# Altium schematic symbol library IC.SchLib: 160 symbols (part 1 of 2)
Pins are listed as number, name and electrical type; pins without a type are passive.

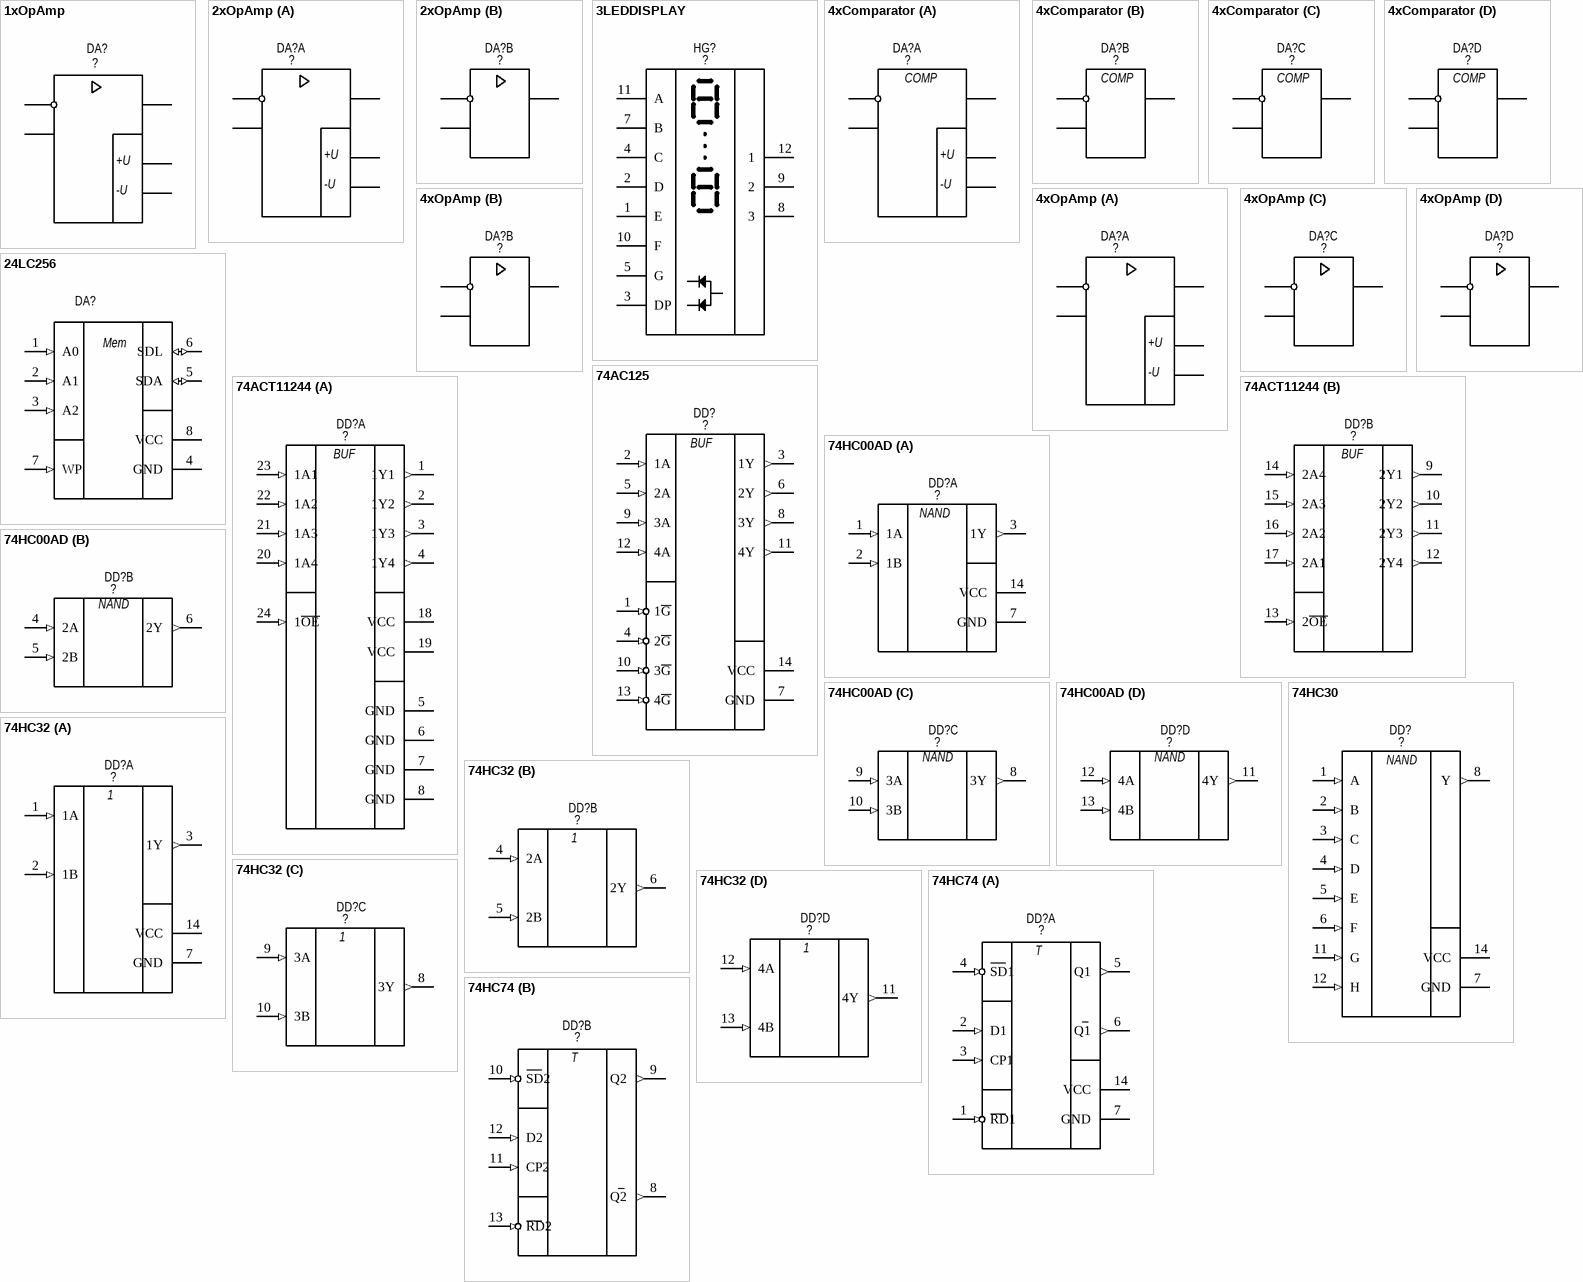
[diagram p0: symbols 1xOpAmp to 74HC74]

## 1xOpAmp
designator DA?, comment ?
Type: ?; Value: ?
pins: IN+, IN-, OUT, U+, U-
text: +U; -U

## 2xOpAmp
designator DA?, comment ?
Type: ?; Value: ?
part A pins: IN1+, IN1-, OUT1, U+, U-
part B pins: IN2+, IN2-, OUT2
part A text: +U; -U

## 3LEDDISPLAY
designator HG?, comment ?
THREE DIGIT NUMERIC DISPLAY; Type: ?; Value: ?
pins: 1 E, 2 D, 3 DP, 4 C, 5 G, 6 hidden, 7 B, 8 3, 9 2, 10 F, 11 A, 12 1

## 4xComparator
designator DA?, comment ?
Type: ?; Value: ?
part A pins: IN1+, IN1-, OUT1, U+, U-
part B pins: IN2+, IN2-, OUT2
part C pins: IN3+, IN3-, OUT3
part D pins: IN4+, IN4-, OUT4
part A text: COMP; +U; -U
part B text: COMP
part C text: COMP
part D text: COMP

## 4xOpAmp
designator DA?, comment ?
Type: ?; Value: ?
part A pins: IN1+, IN1-, OUT1, U+ (power), U- (power)
part B pins: IN2+, IN2-, OUT2
part C pins: IN3+, IN3-, OUT3
part D pins: IN4+, IN4-, OUT4
part A text: +U; -U

## 24LC256
designator DA?
256K I2C™ CMOS Serial EEPROM; Type: ?
pins: 1 A0 (in), 2 A1 (in), 3 A2 (in), 4 GND (power), 5 SDA (io), 6 SDL (io), 7 WP (in), 8 VCC (power)
text: Mem

## 74AC125
designator DD?, comment ?
QUAD BUS BUFFERS (3-STATE); Type: ?; Value: ?
pins: 1 1~{G} (in), 2 1A (in), 3 1Y (out), 4 2~{G} (in), 5 2A (in), 6 2Y (out), 7 GND (power), 8 3Y (out), 9 3A (in), 10 3~{G} (in), 11 4Y (out), 12 4A (in), 13 4~{G} (in), 14 VCC (power)
text: BUF

## 74ACT11244
designator DD?, comment ?
OCTAL BUFFER/LINE DRIVER; Type: ?; Value: ?
part A pins: 1 1Y1 (out), 2 1Y2 (out), 3 1Y3 (out), 4 1Y4 (out), 5 GND (power), 6 GND (power), 7 GND (power), 8 GND (power), 18 VCC (power), 19 VCC (power), 20 1A4 (in), 21 1A3 (in), 22 1A2 (in), 23 1A1 (in), 24 1~{OE} (in)
part B pins: 9 2Y1 (out), 10 2Y2 (out), 11 2Y3 (out), 12 2Y4 (out), 13 2~{OE} (in), 14 2A4 (in), 15 2A3 (in), 16 2A2 (in), 17 2A1 (in)
part A text: BUF
part B text: BUF

## 74HC00AD
designator DD?, comment ?
Quad 2-Input NAND Gate; Type: ?; Value: ?
part A pins: 1 1A (in), 2 1B (in), 3 1Y (out), 7 GND (power), 14 VCC (power)
part B pins: 4 2A (in), 5 2B (in), 6 2Y (out)
part C pins: 8 3Y (out), 9 3A (in), 10 3B (in)
part D pins: 11 4Y (out), 12 4A (in), 13 4B (in)
part A text: NAND
part B text: NAND
part C text: NAND
part D text: NAND

## 74HC30
designator DD?, comment ?
8-input NAND gate; Type: ?; Value: ?
pins: 1 A (in), 2 B (in), 3 C (in), 4 D (in), 5 E (in), 6 F (in), 7 GND (power), 8 Y (out), 9 NC hidden, 10 NC hidden, 11 G (in), 12 H (in), 13 NC hidden, 14 VCC (power)
text: NAND

## 74HC32
designator DD?, comment ?
Quad 2-input OR gate; Type: ?; Value: ?
part A pins: 1 1A (in), 2 1B (in), 3 1Y (out), 7 GND (power), 14 VCC (power)
part B pins: 4 2A (in), 5 2B (in), 6 2Y (out)
part C pins: 8 3Y (out), 9 3A (in), 10 3B (in)
part D pins: 11 4Y (out), 12 4A (in), 13 4B (in)

## 74HC74
designator DD?, comment ?
Dual D-type flip-flop with set and reset; positive edge-trigger; Type: ?; Value: ?
part A pins: 1 RD1 (in), 2 D1 (in), 3 CP1 (in), 4 SD1 (in), 5 Q1 (out), 6 Q1 (out), 7 GND (power), 14 VCC (power)
part B pins: 8 Q2 (out), 9 Q2 (out), 10 SD2 (in), 11 CP2 (in), 12 D2 (in), 13 RD2 (in)
part A text: T
part B text: T

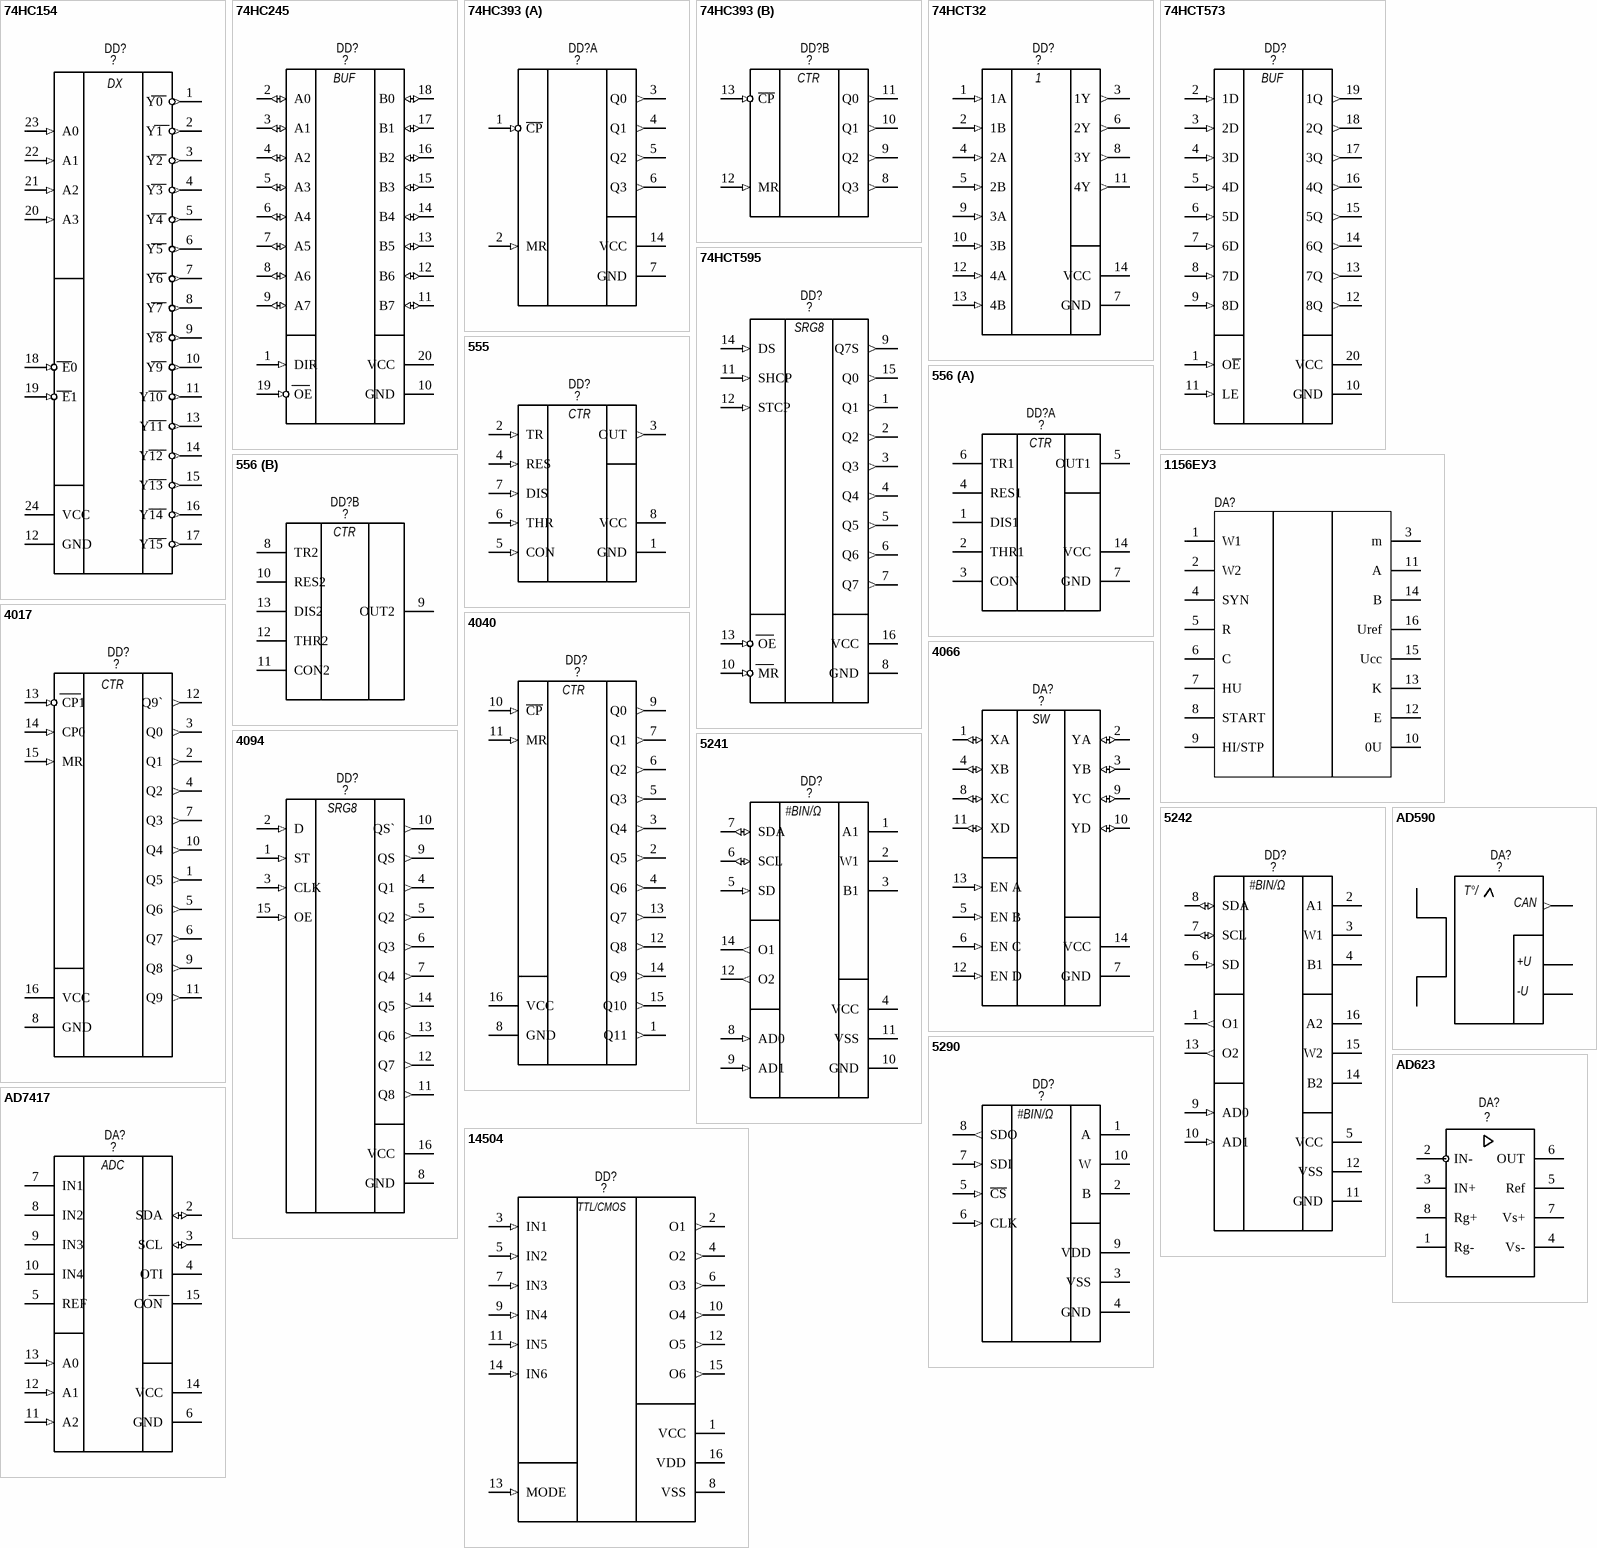
[diagram p1: symbols 74HC154 to AD7417]

## 74HC154
designator DD?, comment ?
4-to-16 line decoder/demultiplexer; Type: ?; Value: ?
pins: 1 Y0 (out), 2 Y1 (out), 3 Y2 (out), 4 Y3 (out), 5 Y4 (out), 6 Y5 (out), 7 Y6 (out), 8 Y7 (out), 9 Y8 (out), 10 Y9 (out), 11 Y10 (out), 12 GND (power), 13 Y11 (out), 14 Y12 (out), 15 Y13 (out), 16 Y14 (out), 17 Y15 (out), 18 E0 (in), 19 E1 (in), 20 A3 (in), 21 A2 (in), 22 A1 (in), 23 A0 (in), 24 VCC (power)
text: DX

## 74HC245
designator DD?, comment ?
Octal bus tranceiver; 3-state; Type: ?; Value: ?
pins: 1 DIR (in), 2 A0 (io), 3 A1 (io), 4 A2 (io), 5 A3 (io), 6 A4 (io), 7 A5 (io), 8 A6 (io), 9 A7 (io), 10 GND (power), 11 B7 (io), 12 B6 (io), 13 B5 (io), 14 B4 (io), 15 B3 (io), 16 B2 (io), 17 B1 (io), 18 B0 (io), 19 OE (in), 20 VCC (power)
text: BUF

## 74HC393
designator DD?, comment ?
Dual 4-bit binary ripple counter; Type: ?; Value: ?
part A pins: 1 ~{CP} (in), 2 MR (in), 3 Q0 (out), 4 Q1 (out), 5 Q2 (out), 6 Q3 (out), 7 GND (power), 14 VCC (power)
part B pins: 8 Q3 (out), 9 Q2 (out), 10 Q1 (out), 11 Q0 (out), 12 MR (in), 13 ~{CP} (in)
part B text: CTR

## 74HCT32
designator DD?, comment ?
Quad 2-input OR gate; Type: ?; Value: ?
pins: 1 1A (in), 2 1B (in), 3 1Y (out), 4 2A (in), 5 2B (in), 6 2Y (out), 7 GND (power), 8 3Y (out), 9 3A (in), 10 3B (in), 11 4Y (out), 12 4A (in), 13 4B (in), 14 VCC (power)

## 74HCT573
designator DD?, comment ?
8-и разрядный регистр-защелка с тремя состояниями на выходе; Type: ?; Value: ?
pins: 1 O~{E} (in), 2 1D (in), 3 2D (in), 4 3D (in), 5 4D (in), 6 5D (in), 7 6D (in), 8 7D (in), 9 8D (in), 10 GND (power), 11 LE (in), 12 8Q (out), 13 7Q (out), 14 6Q (out), 15 5Q (out), 16 4Q (out), 17 3Q (out), 18 2Q (out), 19 1Q (out), 20 VCC (power)
text: BUF

## 74HCT595
designator DD?, comment ?
8-bit serial-in, serial or parallel-out shift register with output  latches; 3-state; Type: ?; Value: ?
pins: 1 Q1 (out), 2 Q2 (out), 3 Q3 (out), 4 Q4 (out), 5 Q5 (out), 6 Q6 (out), 7 Q7 (out), 8 GND (power), 9 Q7S (out), 10 MR (in), 11 SHCP (in), 12 STCP (in), 13 OE (in), 14 DS (in), 15 Q0 (out), 16 VCC (power)
text: SRG8

## 555
designator DD?, comment ?
Precision Timing Circuit.; Type: ?; Value: ?
pins: 1 GND (power), 2 TR (in), 3 OUT (out), 4 RES (in), 5 CON (in), 6 THR (in), 7 DIS (in), 8 VCC (power)
text: CTR

## 556
designator DD?, comment ?
Two Precision Timing Circuits; Type: ?; Value: ?
part A pins: 1 DIS1, 2 THR1, 3 CON, 4 RES1, 5 OUT1, 6 TR1, 7 GND, 14 VCC
part B pins: 8 TR2, 9 OUT2, 10 RES2, 11 CON2, 12 THR2, 13 DIS2
part A text: CTR
part B text: CTR

## 1156ЕУ3
designator DA?  (value not drawn)
value: *; type: *
pins: 1 W1, 2 W2, 3 m, 4 SYN, 5 R, 6 C, 7 HU, 8 START, 9 HI/STP, 10 0U, 11 A, 12 E, 13 K, 14 B, 15 Ucc, 16 Uref

## 4017
designator DD?, comment ?
5-stage Johnson decade counter; Type: ?; Value: ?
pins: 1 Q5 (out), 2 Q1 (out), 3 Q0 (out), 4 Q2 (out), 5 Q6 (out), 6 Q7 (out), 7 Q3 (out), 8 GND (power), 9 Q8 (out), 10 Q4 (out), 11 Q9 (out), 12 Q9` (out), 13 CP1 (in), 14 CP0 (in), 15 MR (in), 16 VCC (power)
text: CTR

## 4040
designator DD?, comment ?
12-stage binary ripple counter; Type: ?; Value: ?
pins: 1 Q11 (out), 2 Q5 (out), 3 Q4 (out), 4 Q6 (out), 5 Q3 (out), 6 Q2 (out), 7 Q1 (out), 8 GND (power), 9 Q0 (out), 10 ~{CP} (in), 11 MR (in), 12 Q8 (out), 13 Q7 (out), 14 Q9 (out), 15 Q10 (out), 16 VCC (power)
text: CTR

## 4066
designator DA?, comment ?
Quad Analog Switch/  Multiplexer/Demultiplexer.; Type: ?; Value: ?
pins: 1 XA (io), 2 YA (io), 3 YB (io), 4 XB (io), 5 EN B (in), 6 EN C (in), 7 GND (power), 8 XC (io), 9 YC (io), 10 YD (io), 11 XD (io), 12 EN D (in), 13 EN A (in), 14 VCC (power)
text: SW

## 4094
designator DD?, comment ?
8-Bit Shift Register/Latch with 3-STATE Outputs.; Type: ?; Value: ?
pins: 1 ST (in), 2 D (in), 3 CLK (in), 4 Q1 (out), 5 Q2 (out), 6 Q3 (out), 7 Q4 (out), 8 GND (power), 9 QS (out), 10 QS` (out), 11 Q8 (out), 12 Q7 (out), 13 Q6 (out), 14 Q5 (out), 15 OE (in), 16 VCC (power)
text: SRG8

## 5241
designator DD?, comment ?
I2C Compatible  256-Position Digital Potentiometer; Type: ?; Value: ?
pins: 1 A1, 2 W1, 3 B1, 4 VCC (power), 5 SD (in), 6 SCL (io), 7 SDA (io), 8 AD0 (in), 9 AD1 (in), 10 GND (power), 11 VSS (power), 12 O2 (out), 14 O1 (out)
text: #BIN/Ω

## 5242
designator DD?, comment ?
Two I2C Compatible  256-Position Digital Potentiometers; Type: ?; Value: ?
pins: 1 O1 (out), 2 A1, 3 W1, 4 B1, 5 VCC (power), 6 SD (in), 7 SCL (io), 8 SDA (io), 9 AD0 (in), 10 AD1 (in), 11 GND (power), 12 VSS (power), 13 O2 (out), 14 B2, 15 W2, 16 A2
text: #BIN/Ω

## 5290
designator DD?, comment ?
Compact +30 V / ±15 V 256-Position  Digital Potentiometer; Type: ?; Value: ?
pins: 1 A, 2 B, 3 VSS (power), 4 GND (power), 5 ~{CS} (in), 6 CLK (in), 7 SDI (in), 8 SDO (out), 9 VDD (power), 10 W
text: #BIN/Ω

## 14504
designator DD?, comment ?
Hex Level Shifter for TTL to CMOS or CMOS to CMOS.; Type: ?; Value: ?
pins: 1 VCC (power), 2 O1 (out), 3 IN1 (in), 4 O2 (out), 5 IN2 (in), 6 O3 (out), 7 IN3 (in), 8 VSS (power), 9 IN4 (in), 10 O4 (out), 11 IN5 (in), 12 O5 (out), 13 MODE (in), 14 IN6 (in), 15 O6 (out), 16 VDD (power)
text: TTL/CMOS

## AD590
designator DA?, comment ?
Two-Terminal IC  Temperature Transducer; Type: ?; Value: ?
pins: 1 U+ (power), 2 OUT (out), 3 U- (power)
text: T°/; CAN; +U; -U

## AD623
designator DA?, comment ?
Type: ?; Value: ?
pins: 1 Rg-, 2 IN-, 3 IN+, 4 Vs-, 5 Ref, 6 OUT, 7 Vs+, 8 Rg+

## AD7417
designator DA?, comment ?
10-Bit Digital Temperature Sensor  and  Four-Channel ADC.; Type: ?; Value: ?
pins: 2 SDA (io), 3 SCL (io), 4 OTI, 5 REF, 6 GND (power), 7 IN1, 8 IN2, 9 IN3, 10 IN4, 11 A2 (in), 12 A1 (in), 13 A0 (in), 14 VCC (power), 15 CON
text: ADC

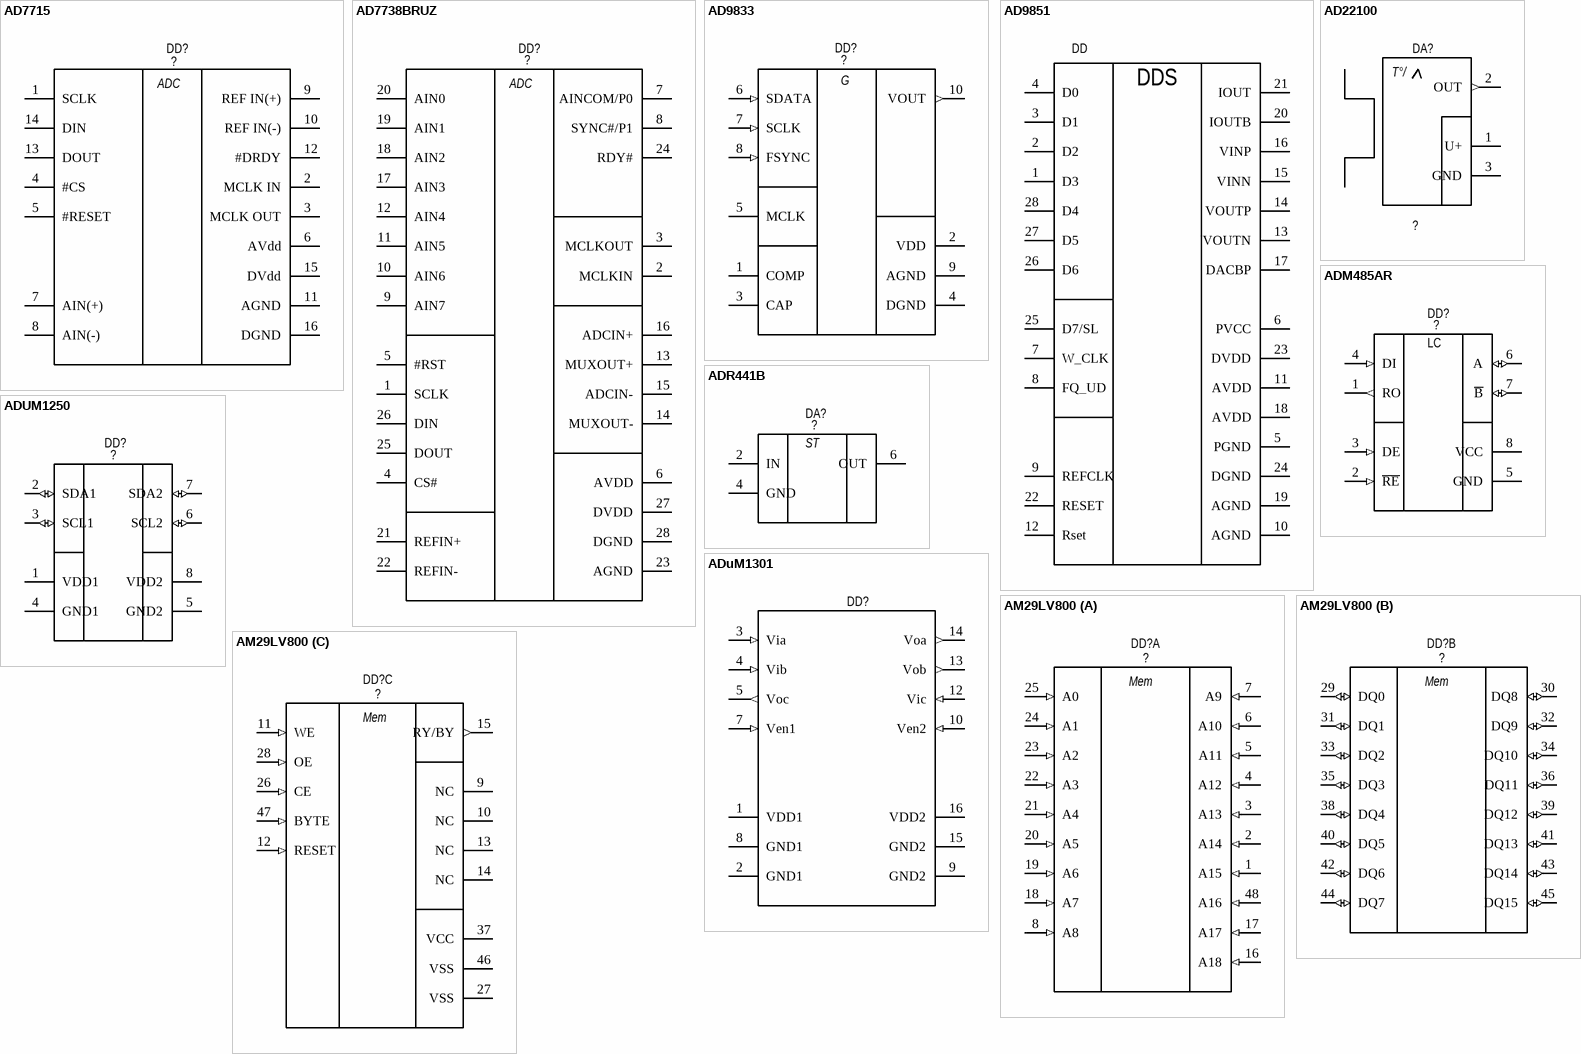
[diagram p2: symbols AD7715 to AM29LV800]

## AD7715
designator DD?, comment ?
3 V/5 V, 450 uA  16-Bit, Sigma-Delta ADC; Type: *; Value: ?
pins: 1 SCLK, 2 MCLK IN, 3 MCLK OUT, 4 #CS, 5 #RESET, 6 AVdd, 7 AIN(+), 8 AIN(-), 9 REF IN(+), 10 REF IN(-), 11 AGND, 12 #DRDY, 13 DOUT, 14 DIN, 15 DVdd, 16 DGND
text: ADC

## AD7738BRUZ
designator DD?, comment ?
8-Channel, High Throughput,  24-Bit Delta-Sigma -  ADC; Type: ?; Value: ?
pins: 1 SCLK, 2 MCLKIN, 3 MCLKOUT, 4 CS#, 5 #RST, 6 AVDD, 7 AINCOM/P0, 8 SYNC#/P1, 9 AIN7, 10 AIN6, 11 AIN5, 12 AIN4, 13 MUXOUT+, 14 MUXOUT-, 15 ADCIN-, 16 ADCIN+, 17 AIN3, 18 AIN2, 19 AIN1, 20 AIN0, 21 REFIN+, 22 REFIN-, 23 AGND, 24 RDY#, 25 DOUT, 26 DIN, 27 DVDD, 28 DGND
text: ADC

## AD9833
designator DD?, comment ?
Programmable Waveform Generator; Type: ?; Value: ?
pins: 1 COMP, 2 VDD (power), 3 CAP, 4 DGND (power), 5 MCLK, 6 SDATA (in), 7 SCLK (in), 8 FSYNC (in), 9 AGND (power), 10 VOUT (out)
text: G

## AD9851
designator DD  (value not drawn)
DDS 180Mghz synteser; type: *; Value: *
pins: 1 D3, 2 D2, 3 D1, 4 D0, 5 PGND, 6 PVCC, 7 W_CLK, 8 FQ_UD, 9 REFCLK, 10 AGND, 11 AVDD, 12 Rset, 13 VOUTN, 14 VOUTP, 15 VINN, 16 VINP, 17 DACBP, 18 AVDD, 19 AGND, 20 IOUTB, 21 IOUT, 22 RESET, 23 DVDD, 24 DGND, 25 D7/SL, 26 D6, 27 D5, 28 D4
text: DDS

## AD22100
designator DA?, comment ?
Two-Terminal IC  Temperature Transducer; Type: ?; value: ?
pins: 1 U+ (power), 2 OUT (out), 3 GND (power)
text: T°/

## ADM485AR
designator DD?, comment ?
+5 V Low Power RS-485 Transceiver; type: *; value: ?
pins: 1 RO (out), 2 ~{RE} (in), 3 DE (in), 4 DI (in), 5 GND, 6 A (io), 7 ~{B} (io), 8 VCC
text: LC

## ADR441B
designator DA?, comment ?
Ultralow Noise, LDO XFET Voltage  References with Current Sink and Source.; Type: ?; Value: ?
pins: 2 IN, 4 GND, 6 OUT
text: ST

## ADUM1250
designator DD?, comment ?
Hot Swappable Dual I2C Isolators; Type: ?; Value: ?
pins: 1 VDD1 (power), 2 SDA1 (io), 3 SCL1 (io), 4 GND1 (power), 5 GND2 (power), 6 SCL2 (io), 7 SDA2 (io), 8 VDD2 (power)

## ADuM1301
designator DD?, comment ADUM1301  (value not drawn)
price: 68
footprint SO-16W
pins: 1 VDD1, 2 GND1, 3 Via (in), 4 Vib (in), 5 Voc (out), 6 NC hidden, 7 Ven1 (in), 8 GND1, 9 GND2, 10 Ven2 (in), 11 NC hidden, 12 Vic (in), 13 Vob (out), 14 Voa (out), 15 GND2, 16 VDD2

## AM29LV800
designator DD?, comment ?
8 Megabit (1 M x 8-Bit/512 K x 16-Bit)  CMOS 3.0 Volt-only Boot Sector Flash Memory; Type: ?; Value: ?
part A pins: 1 A15 (in), 2 A14 (in), 3 A13 (in), 4 A12 (in), 5 A11 (in), 6 A10 (in), 7 A9 (in), 8 A8 (in), 16 A18 (in), 17 A17 (in), 18 A7 (in), 19 A6 (in), 20 A5 (in), 21 A4 (in), 22 A3 (in), 23 A2 (in), 24 A1 (in), 25 A0 (in), 48 A16 (in)
part B pins: 29 DQ0 (io), 30 DQ8 (io), 31 DQ1 (io), 32 DQ9 (io), 33 DQ2 (io), 34 DQ10 (io), 35 DQ3 (io), 36 DQ11 (io), 38 DQ4 (io), 39 DQ12 (io), 40 DQ5 (io), 41 DQ13 (io), 42 DQ6 (io), 43 DQ14 (io), 44 DQ7 (io), 45 DQ15 (io)
part C pins: 9 NC, 10 NC, 11 WE (in), 12 RESET (in), 13 NC, 14 NC, 15 RY/BY (out), 26 CE (in), 27 VSS (power), 28 OE (in), 37 VCC (power), 46 VSS (power), 47 BYTE (in)
part A text: Mem
part B text: Mem
part C text: Mem

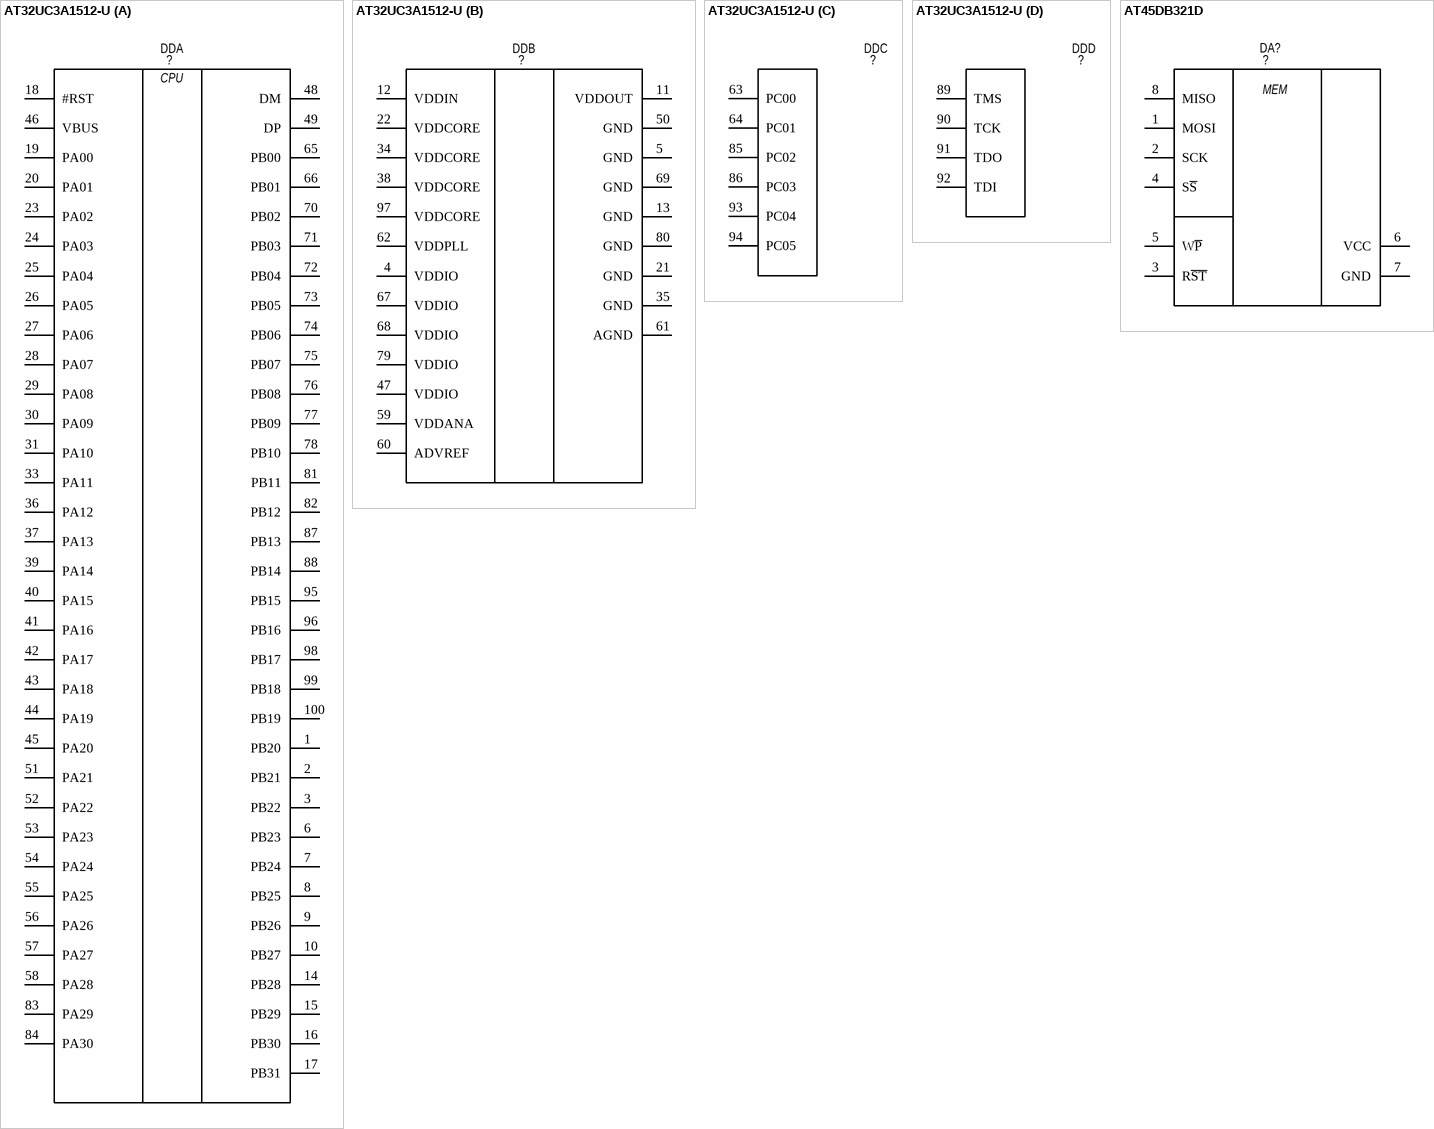
[diagram p3: symbols AT32UC3A1512-U to AT45DB321D]

## AT32UC3A1512-U
designator DD, comment ?
32-Bit Atmel AVR  Microcontroller; Type: TQFP-100; Value: ?
part A pins: 1 PB20, 2 PB21, 3 PB22, 6 PB23, 7 PB24, 8 PB25, 9 PB26, 10 PB27, 14 PB28, 15 PB29, 16 PB30, 17 PB31, 18 #RST, 19 PA00, 20 PA01, 23 PA02, 24 PA03, 25 PA04, 26 PA05, 27 PA06, 28 PA07, 29 PA08, 30 PA09, 31 PA10, 33 PA11, 36 PA12, 37 PA13, 39 PA14, 40 PA15, 41 PA16, 42 PA17, 43 PA18, 44 PA19, 45 PA20, 46 VBUS, 48 DM, 49 DP, 51 PA21, 52 PA22, 53 PA23, 54 PA24, 55 PA25, 56 PA26, 57 PA27, 58 PA28, 65 PB00, 66 PB01, 70 PB02, 71 PB03, 72 PB04, 73 PB05, 74 PB06, 75 PB07, 76 PB08, 77 PB09, 78 PB10, 81 PB11, 82 PB12, 83 PA29, 84 PA30, 87 PB13, 88 PB14, 95 PB15, 96 PB16, 98 PB17, 99 PB18, 100 PB19
part B pins: 4 VDDIO, 5 GND, 11 VDDOUT, 12 VDDIN, 13 GND, 21 GND, 22 VDDCORE, 34 VDDCORE, 35 GND, 38 VDDCORE, 47 VDDIO, 50 GND, 59 VDDANA, 60 ADVREF, 61 AGND, 62 VDDPLL, 67 VDDIO, 68 VDDIO, 69 GND, 79 VDDIO, 80 GND, 97 VDDCORE
part C pins: 63 PC00, 64 PC01, 85 PC02, 86 PC03, 93 PC04, 94 PC05
part D pins: 89 TMS, 90 TCK, 91 TDO, 92 TDI
part A text: CPU

## AT45DB321D
designator DA?, comment ?
32-megabit  serial interface Flash memory; Type: ?; Value: ?
pins: 1 MOSI, 2 SCK, 3 R~{ST}, 4 S~{S}, 5 W~{P}, 6 VCC, 7 GND, 8 MISO
text: MEM

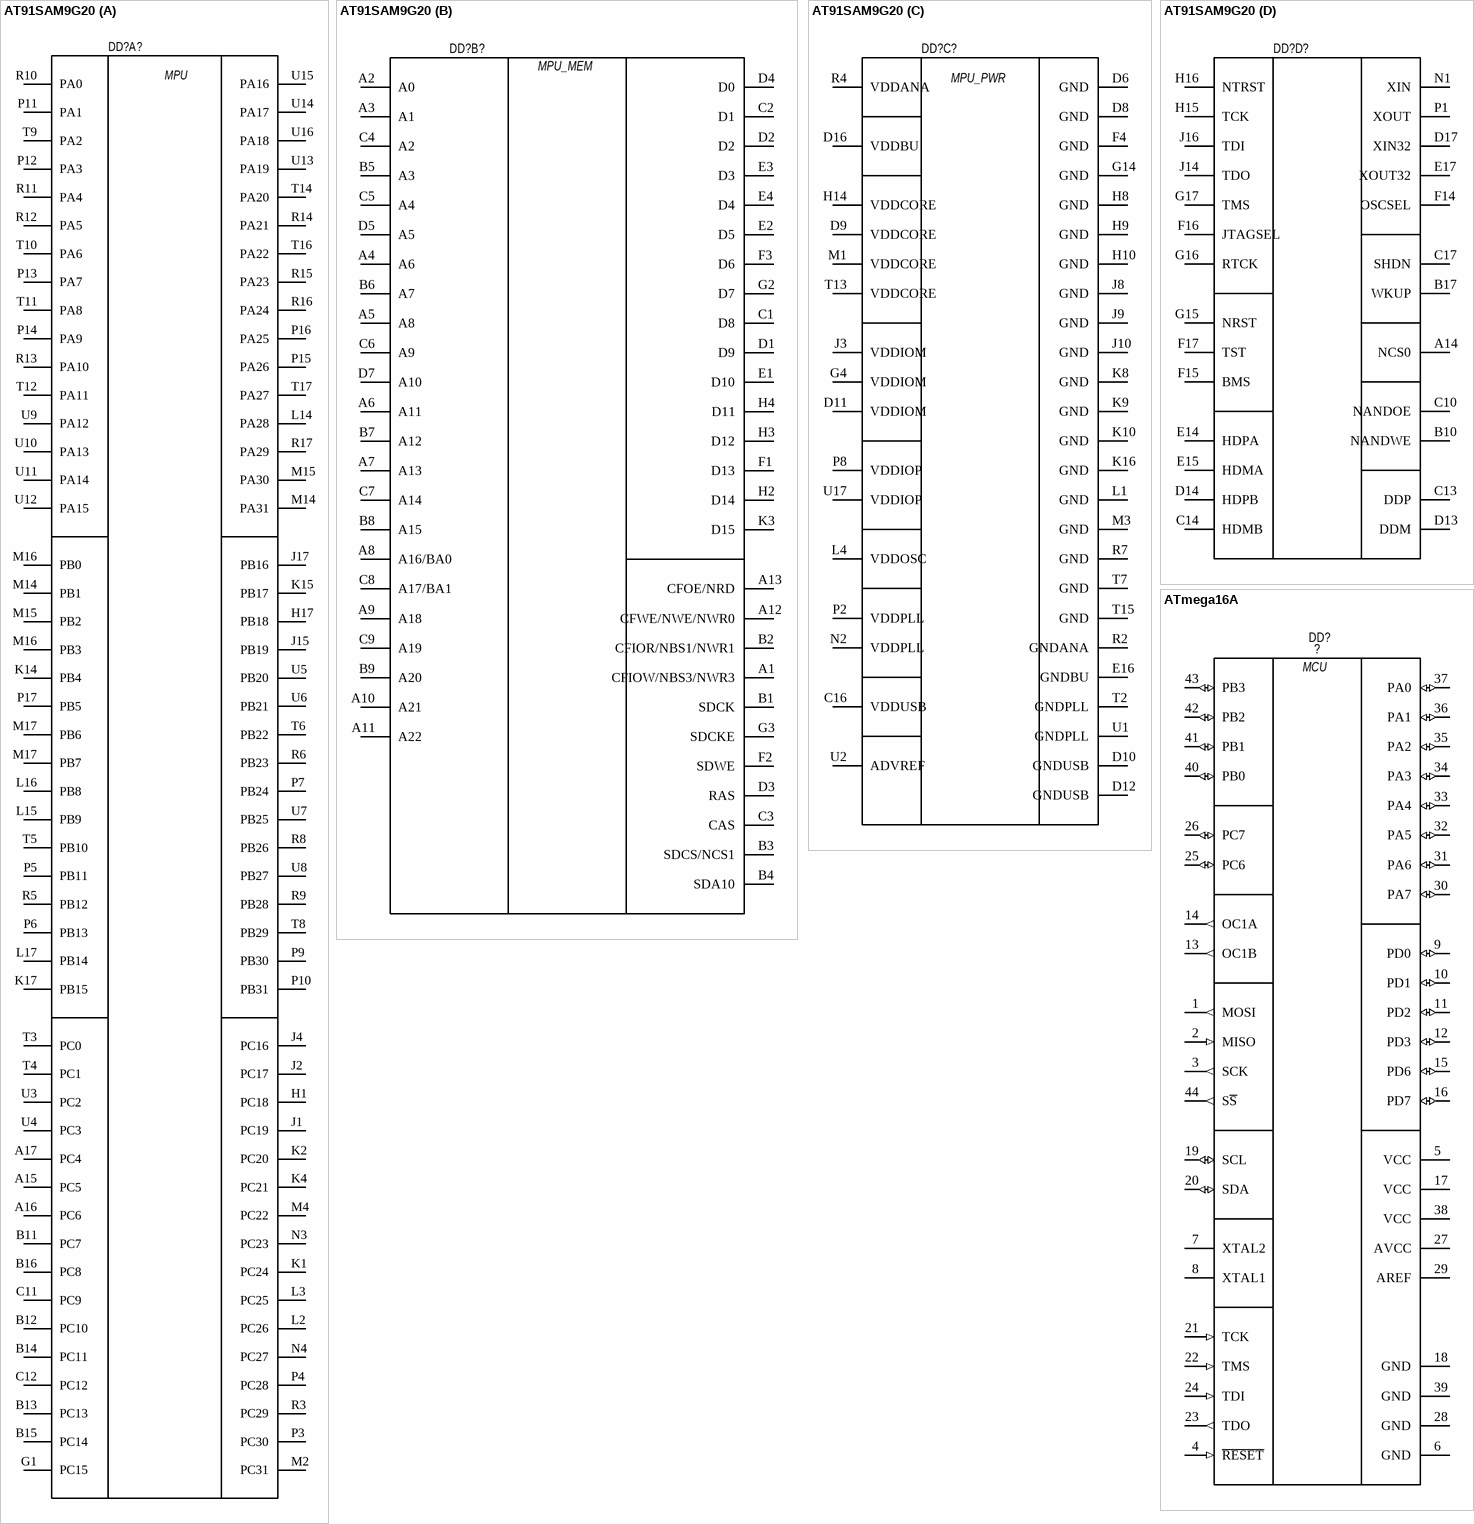
[diagram p4: symbols AT91SAM9G20 to ATmega16A]

## AT91SAM9G20
designator DD?, comment ?
Atmel MPU ARM9; type: ?; value: ?
part A pins: A15 PC5, A16 PC6, A17 PC4, B11 PC7, B12 PC10, B13 PC13, B14 PC11, B15 PC14, B16 PC8, C11 PC9, C12 PC12, C15 NC hidden, D15 NC hidden, G1 PC15, H1 PC18, H17 PB18, J1 PC19, J2 PC17, J4 PC16, J15 PB19, J17 PB16, K1 PC24, K2 PC20, K4 PC21, K14 PB4, K15 PB17, K17 PB15, L2 PC26, L3 PC25, L14 PA28, L15 PB9, L16 PB8, L17 PB14, M2 PC31, M4 PC22, M14 PB1, M14 PA31, M15 PB2, M15 PA30, M16 PB3, M16 PB0, M17 PB7, M17 PB6, N3 PC23, N4 PC27, P3 PC30, P4 PC28, P5 PB11, P6 PB13, P7 PB24, P9 PB30, P10 PB31, P11 PA1, P12 PA3, P13 PA7, P14 PA9, P15 PA26, P16 PA25, P17 PB5, R1 NC hidden, R3 PC29, R5 PB12, R6 PB23, R8 PB26, R9 PB28, R10 PA0, R11 PA4, R12 PA5, R13 PA10, R14 PA21, R15 PA23, R16 PA24, R17 PA29, T1 NC hidden, T3 PC0, T4 PC1, T5 PB10, T6 PB22, T8 PB29, T9 PA2, T10 PA6, T11 PA8, T12 PA11, T14 PA20, T16 PA22, T17 PA27, U3 PC2, U4 PC3, U5 PB20, U6 PB21, U7 PB25, U8 PB27, U9 PA12, U10 PA13, U11 PA14, U12 PA15, U13 PA19, U14 PA17, U15 PA16, U16 PA18
part B pins: A1 CFIOW/NBS3/NWR3, A2 A0, A3 A1, A4 A6, A5 A8, A6 A11, A7 A13, A8 A16/BA0, A9 A18, A10 A21, A11 A22, A12 CFWE/NWE/NWR0, A13 CFOE/NRD, B1 SDCK, B2 CFIOR/NBS1/NWR1, B3 SDCS/NCS1, B4 SDA10, B5 A3, B6 A7, B7 A12, B8 A15, B9 A20, C1 D8, C2 D1, C3 CAS, C4 A2, C5 A4, C6 A9, C7 A14, C8 A17/BA1, C9 A19, D1 D9, D2, D3 RAS, D4 D0, D5 A5, D7 A10, E1 D10, E2 D5, E3 D3, E4 D4, F1 D13, F2 SDWE, F3 D6, G2 D7, G3 SDCKE, H2 D14, H3 D12, H4 D11, K3 D15
part C pins: C16 VDDUSB, D6 GND, D8 GND, D9 VDDCORE, D10 GNDUSB, D11 VDDIOM, D12 GNDUSB, D16 VDDBU, E16 GNDBU, F4 GND, G4 VDDIOM, G14 GND, H8 GND, H9 GND, H10 GND, H14 VDDCORE, J3 VDDIOM, J8 GND, J9 GND, J10 GND, K8 GND, K9 GND, K10 GND, K16 GND, L1 GND, L4 VDDOSC, M1 VDDCORE, M3 GND, N2 VDDPLL, P2 VDDPLL, P8 VDDIOP, R2 GNDANA, R4 VDDANA, R7 GND, T2 GNDPLL, T7 GND, T13 VDDCORE, T15 GND, U1 GNDPLL, U2 ADVREF, U17 VDDIOP
part D pins: A14 NCS0, B10 NANDWE, B17 WKUP, C10 NANDOE, C13 DDP, C14 HDMB, C17 SHDN, D13 DDM, D14 HDPB, D17 XIN32, E14 HDPA, E15 HDMA, E17 XOUT32, F14 OSCSEL, F15 BMS, F16 JTAGSEL, F17 TST, G15 NRST, G16 RTCK, G17 TMS, H15 TCK, H16 NTRST, J14 TDO, J16 TDI, N1 XIN, P1 XOUT
part A text: MPU
part B text: MPU_MEM
part C text: MPU_PWR

## ATmega16A
designator DD?, comment ?
8-bit  Microcontroller  with 16K Bytes  In-System  Programmable  Flash; type: ?; value: ?
pins: 1 MOSI (out), 2 MISO (in), 3 SCK (out), 4 ~{RESET} (in), 5 VCC (power), 6 GND (power), 7 XTAL2, 8 XTAL1, 9 PD0 (io), 10 PD1 (io), 11 PD2 (io), 12 PD3 (io), 13 OC1B (out), 14 OC1A (out), 15 PD6 (io), 16 PD7 (io), 17 VCC (power), 18 GND (power), 19 SCL (io), 20 SDA (io), 21 TCK (in), 22 TMS (in), 23 TDO (out), 24 TDI (in), 25 PC6 (io), 26 PC7 (io), 27 AVCC (power), 28 GND (power), 29 AREF (power), 30 PA7 (io), 31 PA6 (io), 32 PA5 (io), 33 PA4 (io), 34 PA3 (io), 35 PA2 (io), 36 PA1 (io), 37 PA0 (io), 38 VCC (power), 39 GND (power), 40 PB0 (io), 41 PB1 (io), 42 PB2 (io), 43 PB3 (io), 44 S~{S} (out)
text: MCU

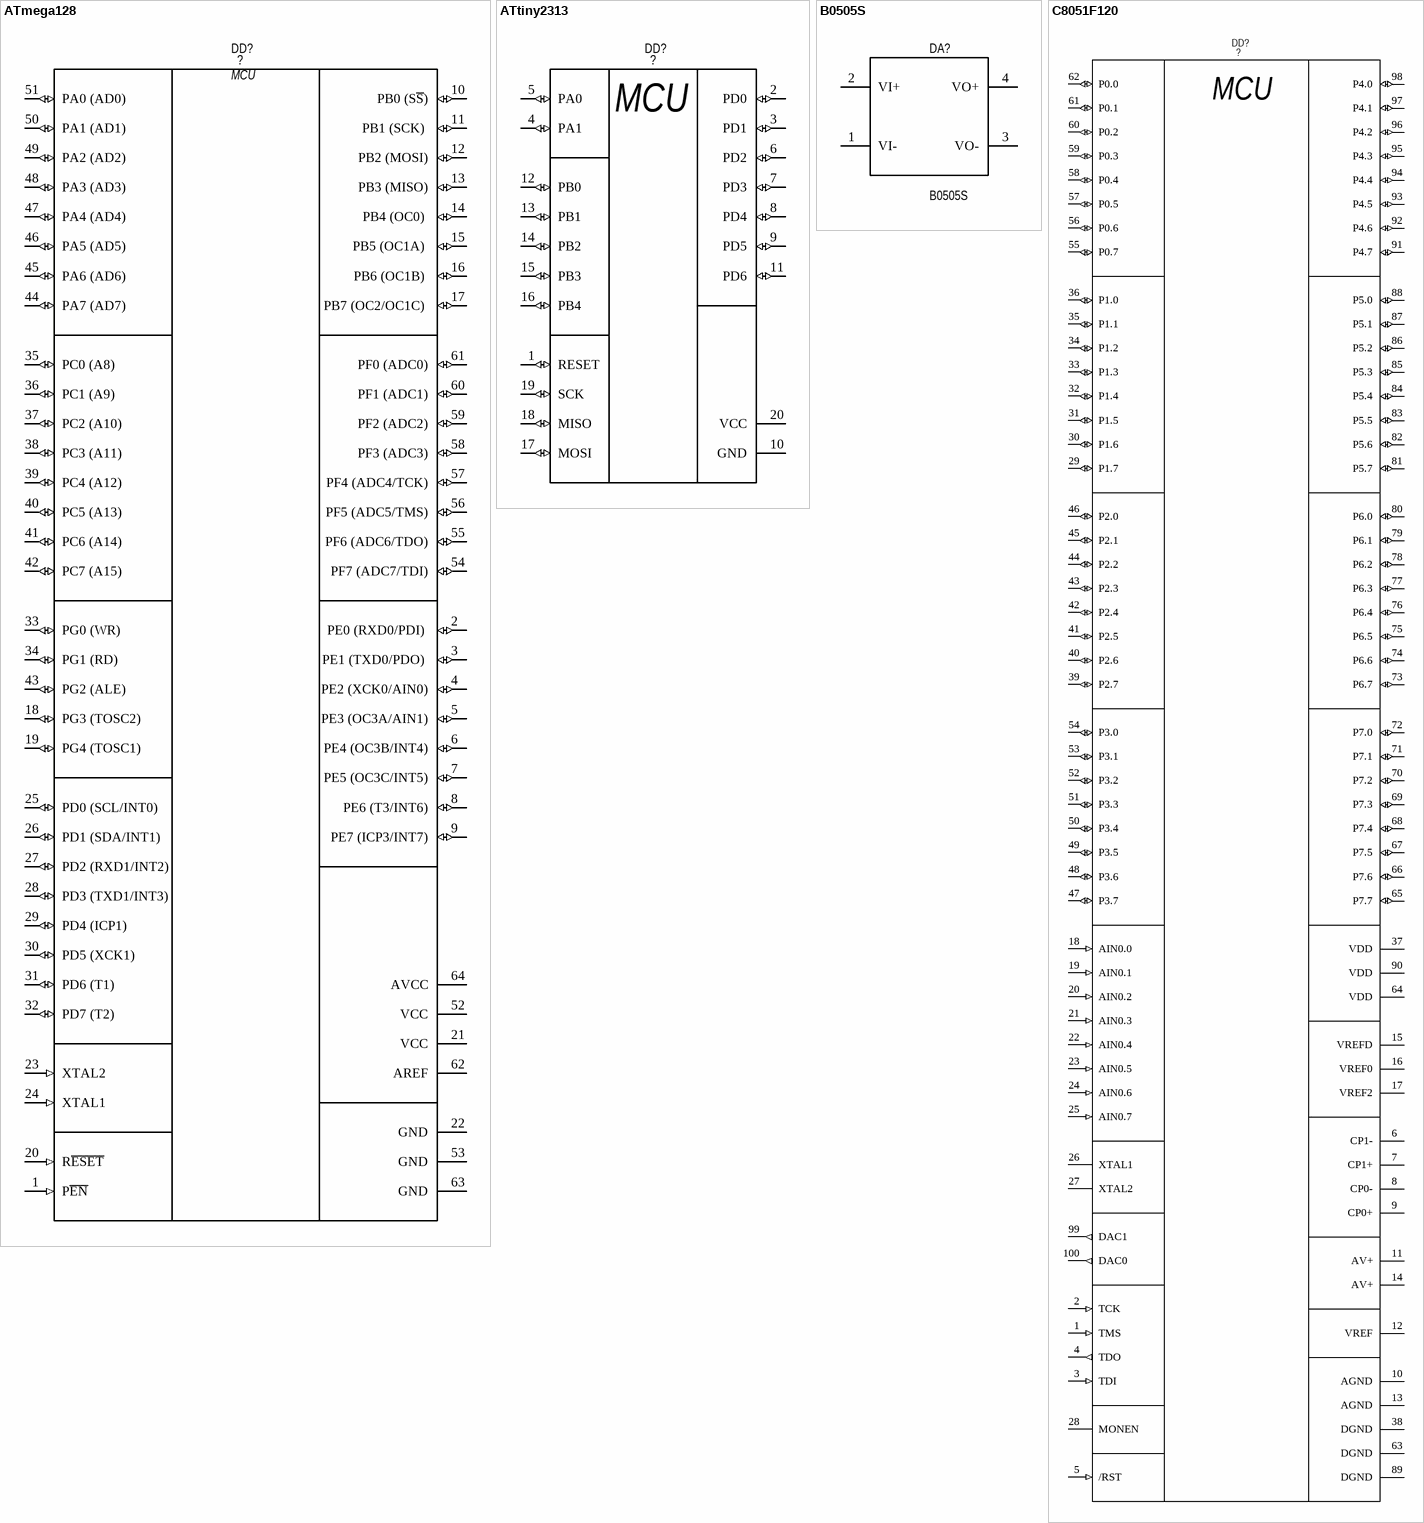
[diagram p5: symbols ATmega128 to C8051F120]

## ATmega128
designator DD?, comment ?
8-bit Atmel Microcontroller with 128KBytes In-System Programmable Flash; type: ?; value: ?
pins: 1 P~{EN} (in), 2 PE0 (RXD0/PDI)  (io), 3 PE1 (TXD0/PDO)  (io), 4 PE2 (XCK0/AIN0) (io), 5 PE3 (OC3A/AIN1) (io), 6 PE4 (OC3B/INT4) (io), 7 PE5 (OC3C/INT5) (io), 8 PE6 (T3/INT6) (io), 9 PE7 (ICP3/INT7) (io), 10 PB0 (S~{S}) (io), 11 PB1 (SCK)  (io), 12 PB2 (MOSI) (io), 13 PB3 (MISO) (io), 14 PB4 (OC0)  (io), 15 PB5 (OC1A)  (io), 16 PB6 (OC1B)  (io), 17 PB7 (OC2/OC1C)  (io), 18 PG3 (TOSC2) (io), 19 PG4 (TOSC1) (io), 20 R~{ESET} (in), 21 VCC (power), 22 GND (power), 23 XTAL2 (in), 24 XTAL1 (in), 25 PD0 (SCL/INT0)  (io), 26 PD1 (SDA/INT1)  (io), 27 PD2 (RXD1/INT2)  (io), 28 PD3 (TXD1/INT3)  (io), 29 PD4 (ICP1)  (io), 30 PD5 (XCK1)  (io), 31 PD6 (T1)  (io), 32 PD7 (T2)  (io), 33 PG0 (WR) (io), 34 PG1 (RD) (io), 35 PC0 (A8) (io), 36 PC1 (A9) (io), 37 PC2 (A10) (io), 38 PC3 (A11) (io), 39 PC4 (A12) (io), 40 PC5 (A13) (io), 41 PC6 (A14) (io), 42 PC7 (A15) (io), 43 PG2 (ALE) (io), 44 PA7 (AD7) (io), 45 PA6 (AD6) (io), 46 PA5 (AD5) (io), 47 PA4 (AD4) (io), 48 PA3 (AD3) (io), 49 PA2 (AD2) (io), 50 PA1 (AD1) (io), 51 PA0 (AD0) (io), 52 VCC (power), 53 GND (power), 54 PF7 (ADC7/TDI) (io), 55 PF6 (ADC6/TDO) (io), 56 PF5 (ADC5/TMS) (io), 57 PF4 (ADC4/TCK) (io), 58 PF3 (ADC3) (io), 59 PF2 (ADC2) (io), 60 PF1 (ADC1) (io), 61 PF0 (ADC0) (io), 62 AREF (power), 63 GND (power), 64 AVCC (power)
text: MCU

## ATtiny2313
designator DD?, comment ?
8-bit  Microcontroller  with 2K Bytes  In-System  Programmable  Flash; type: ?; value: ?
pins: 1 RESET (io), 2 PD0 (io), 3 PD1 (io), 4 PA1 (io), 5 PA0 (io), 6 PD2 (io), 7 PD3 (io), 8 PD4 (io), 9 PD5 (io), 10 GND (power), 11 PD6 (io), 12 PB0 (io), 13 PB1 (io), 14 PB2 (io), 15 PB3 (io), 16 PB4 (io), 17 MOSI (io), 18 MISO (io), 19 SCK (io), 20 VCC (power)
text: MCU

## B0505S
designator DA?
5V-5V Isolated DC convertor; price: 100
footprint BS0505S (China Traco power)
pins: 1 VI-, 2 VI+, 3 VO-, 4 VO+

## C8051F120
designator DD?, comment ?
Mixed Signal ISP FLASH MCU; Type: ?; Value: ?
pins: 1 TMS (in) "JTAG", 2 TCK (in) "JTAG", 3 TDI (in) "JTAG", 4 TDO (out) "JTAG", 5 /RST (in), 6 CP1-, 7 CP1+, 8 CP0-, 9 CP0+, 10 AGND (power), 11 AV+, 12 VREF, 13 AGND (power), 14 AV+, 15 VREFD (power), 16 VREF0 (power), 17 VREF2 (power), 18 AIN0.0 (in) "ADC", 19 AIN0.1 (in) "ADC", 20 AIN0.2 (in) "ADC", 21 AIN0.3 (in) "ADC", 22 AIN0.4 (in) "ADC", 23 AIN0.5 (in) "ADC", 24 AIN0.6 (in) "ADC", 25 AIN0.7 (in) "ADC", 26 XTAL1, 27 XTAL2, 28 MONEN, 29 P1.7 (io) "GPIO", 30 P1.6 (io) "GPIO", 31 P1.5 (io) "GPIO", 32 P1.4 (io) "GPIO", 33 P1.3 (io) "GPIO", 34 P1.2 (io) "GPIO", 35 P1.1 (io) "GPIO", 36 P1.0 (io) "GPIO", 37 VDD (power), 38 DGND (power), 39 P2.7 (io) "GPIO", 40 P2.6 (io) "GPIO", 41 P2.5 (io) "GPIO", 42 P2.4 (io) "GPIO", 43 P2.3 (io) "GPIO", 44 P2.2 (io) "GPIO", 45 P2.1 (io) "GPIO", 46 P2.0 (io) "GPIO", 47 P3.7 (io) "ADC", 48 P3.6 (io) "ADC", 49 P3.5 (io) "ADC", 50 P3.4 (io) "ADC", 51 P3.3 (io) "ADC", 52 P3.2 (io) "ADC", 53 P3.1 (io) "ADC", 54 P3.0 (io) "ADC", 55 P0.7 (io) "GPIO", 56 P0.6 (io) "GPIO", 57 P0.5 (io) "GPIO", 58 P0.4 (io) "GPIO", 59 P0.3 (io) "GPIO", 60 P0.2 (io) "GPIO", 61 P0.1 (io) "GPIO", 62 P0.0 (io) "GPIO", 63 DGND (power), 64 VDD (power), 65 P7.7 (io) "ADC", 66 P7.6 (io) "ADC", 67 P7.5 (io) "ADC", 68 P7.4 (io) "ADC", 69 P7.3 (io) "ADC", 70 P7.2 (io) "ADC", 71 P7.1 (io) "ADC", 72 P7.0 (io) "ADC", 73 P6.7 (io) "GPIO", 74 P6.6 (io) "GPIO", 75 P6.5 (io) "GPIO", 76 P6.4 (io) "GPIO", 77 P6.3 (io) "GPIO", 78 P6.2 (io) "GPIO", 79 P6.1 (io) "GPIO", 80 P6.0 (io) "GPIO", 81 P5.7 (io) "GPIO", 82 P5.6 (io) "GPIO", 83 P5.5 (io) "GPIO", 84 P5.4 (io) "GPIO", 85 P5.3 (io) "GPIO", 86 P5.2 (io) "GPIO", 87 P5.1 (io) "GPIO", 88 P5.0 (io) "GPIO", 89 DGND (power), 90 VDD (power), 91 P4.7 (io) "GPIO", 92 P4.6 (io) "GPIO", 93 P4.5 (io) "GPIO", 94 P4.4 (io) "GPIO", 95 P4.3 (io) "GPIO", 96 P4.2 (io) "GPIO", 97 P4.1 (io) "GPIO", 98 P4.0 (io) "GPIO", 99 DAC1 (out), 100 DAC0 (out)
text: MCU

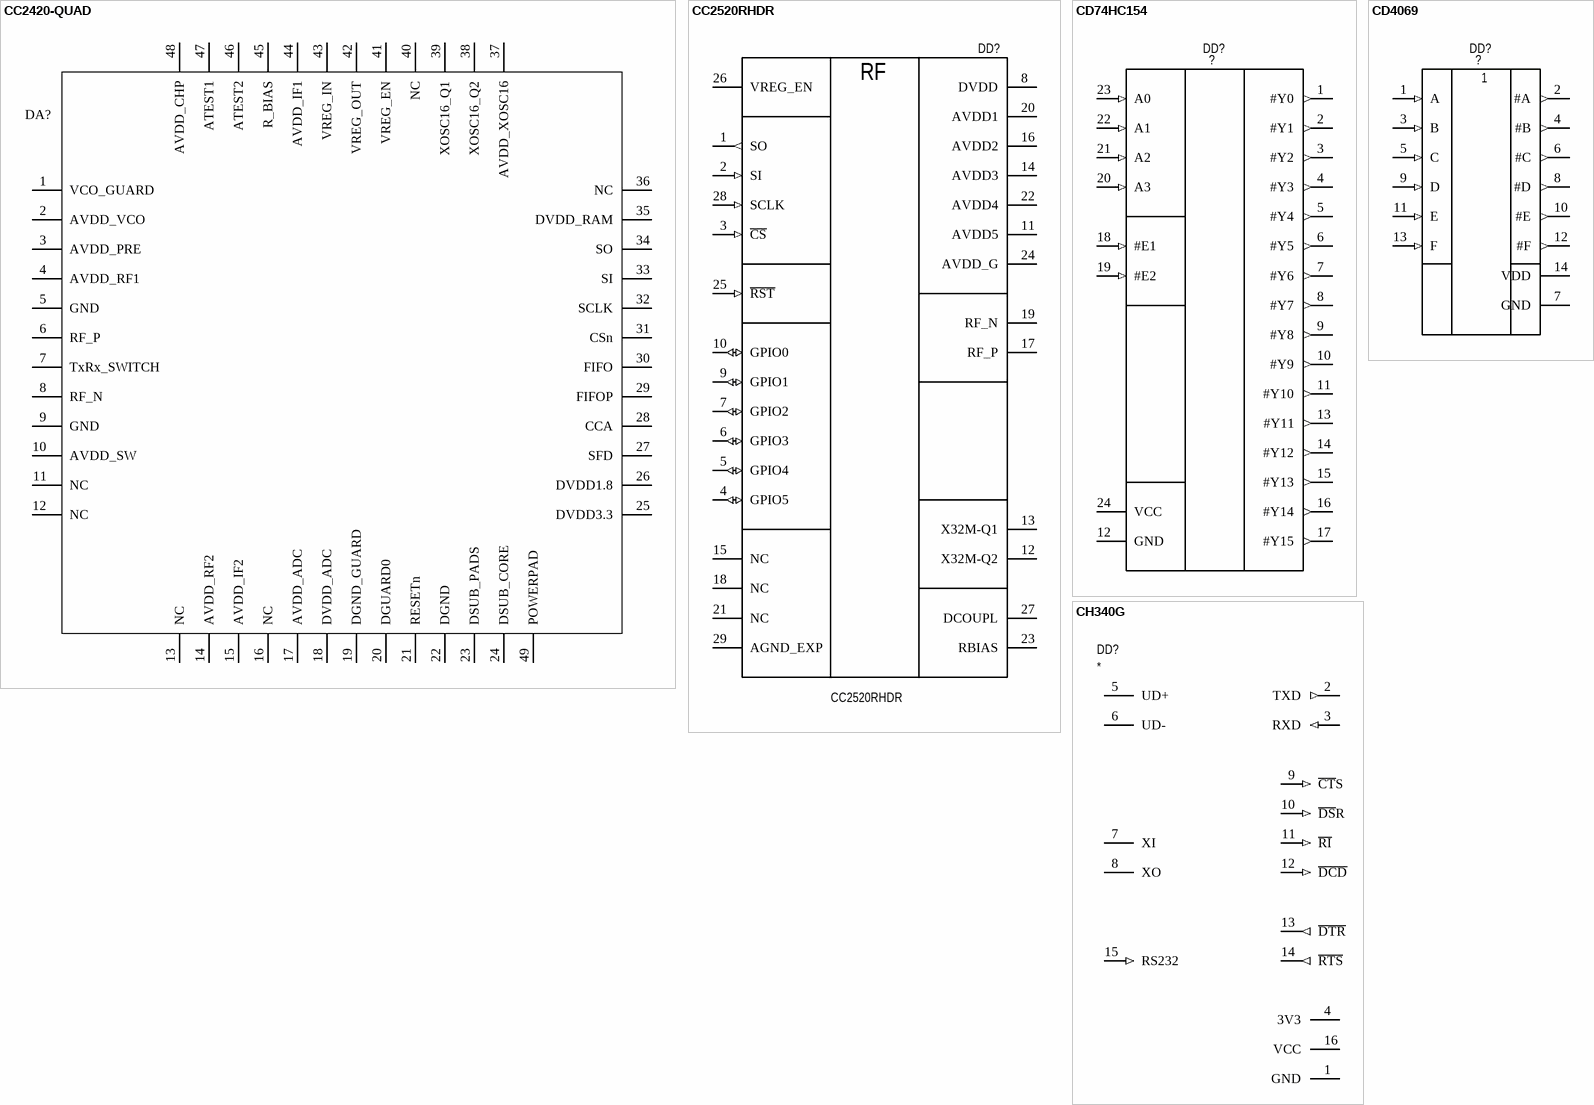
[diagram p6: symbols CC2420-QUAD to CH340G]

## CC2420-QUAD
designator DA?  (value not drawn)
PCB: Силовая площадка!!
pins: 1 VCO_GUARD, 2 AVDD_VCO, 3 AVDD_PRE, 4 AVDD_RF1, 5 GND, 6 RF_P, 7 TxRx_SWITCH, 8 RF_N, 9 GND, 10 AVDD_SW, 11 NC, 12 NC, 13 NC, 14 AVDD_RF2, 15 AVDD_IF2, 16 NC, 17 AVDD_ADC, 18 DVDD_ADC, 19 DGND_GUARD, 20 DGUARD0, 21 RESETn, 22 DGND, 23 DSUB_PADS, 24 DSUB_CORE, 25 DVDD3.3, 26 DVDD1.8, 27 SFD, 28 CCA, 29 FIFOP, 30 FIFO, 31 CSn, 32 SCLK, 33 SI, 34 SO, 35 DVDD_RAM, 36 NC, 37 AVDD_XOSC16, 38 XOSC16_Q2, 39 XOSC16_Q1, 40 NC, 41 VREG_EN, 42 VREG_OUT, 43 VREG_IN, 44 AVDD_IF1, 45 R_BIAS, 46 ATEST2, 47 ATEST1, 48 AVDD_CHP, 49 POWERPAD

## CC2520RHDR
designator DD?
type: *; value: *
footprint QFN28 (pitch 0.5 5x5mm)
pins: 1 SO (out), 2 SI (in), 3 ~{CS} (in), 4 GPIO5 (io), 5 GPIO4 (io), 6 GPIO3 (io), 7 GPIO2 (io), 8 DVDD (power), 9 GPIO1 (io), 10 GPIO0 (io), 11 AVDD5 (power), 12 X32M-Q2, 13 X32M-Q1, 14 AVDD3 (power), 15 NC, 16 AVDD2 (power), 17 RF_P, 18 NC, 19 RF_N, 20 AVDD1 (power), 21 NC, 22 AVDD4 (power), 23 RBIAS, 24 AVDD_G (power), 25 ~{RST} (in), 26 VREG_EN, 27 DCOUPL, 28 SCLK (in), 29 AGND_EXP (power)
text: RF

## CD74HC154
designator DD?, comment ?
High-Speed CMOS Logic  4- to 16-Line Decoder/Demultiplexer; Type: ?; Value: ?
pins: 1 #Y0 (out), 2 #Y1 (out), 3 #Y2 (out), 4 #Y3 (out), 5 #Y4 (out), 6 #Y5 (out), 7 #Y6 (out), 8 #Y7 (out), 9 #Y8 (out), 10 #Y9 (out), 11 #Y10 (out), 12 GND (power), 13 #Y11 (out), 14 #Y12 (out), 15 #Y13 (out), 16 #Y14 (out), 17 #Y15 (out), 18 #E1 (in), 19 #E2 (in), 20 A3 (in), 21 A2 (in), 22 A1 (in), 23 A0 (in), 24 VCC (power)

## CD4069
designator DD?, comment ?
CMOS Hex Inverter; Type: ?; Value: ?
pins: 1 A (in), 2 #A (out), 3 B (in), 4 #B (out), 5 C (in), 6 #C (out), 7 GND (power), 8 #D (out), 9 D (in), 10 #E (out), 11 E (in), 12 #F (out), 13 F (in), 14 VDD (power)

## CH340G
designator DD?
pins: 1 GND, 2 TXD (out), 3 RXD (in), 4 3V3, 5 UD+, 6 UD-, 7 XI, 8 XO, 9 ~{CT}S (in), 10 ~{DS}R (in), 11 ~{RI} (in), 12 ~{DCD} (in), 13 ~{DTR} (out), 14 ~{RTS} (out), 15 RS232 (in), 16 VCC

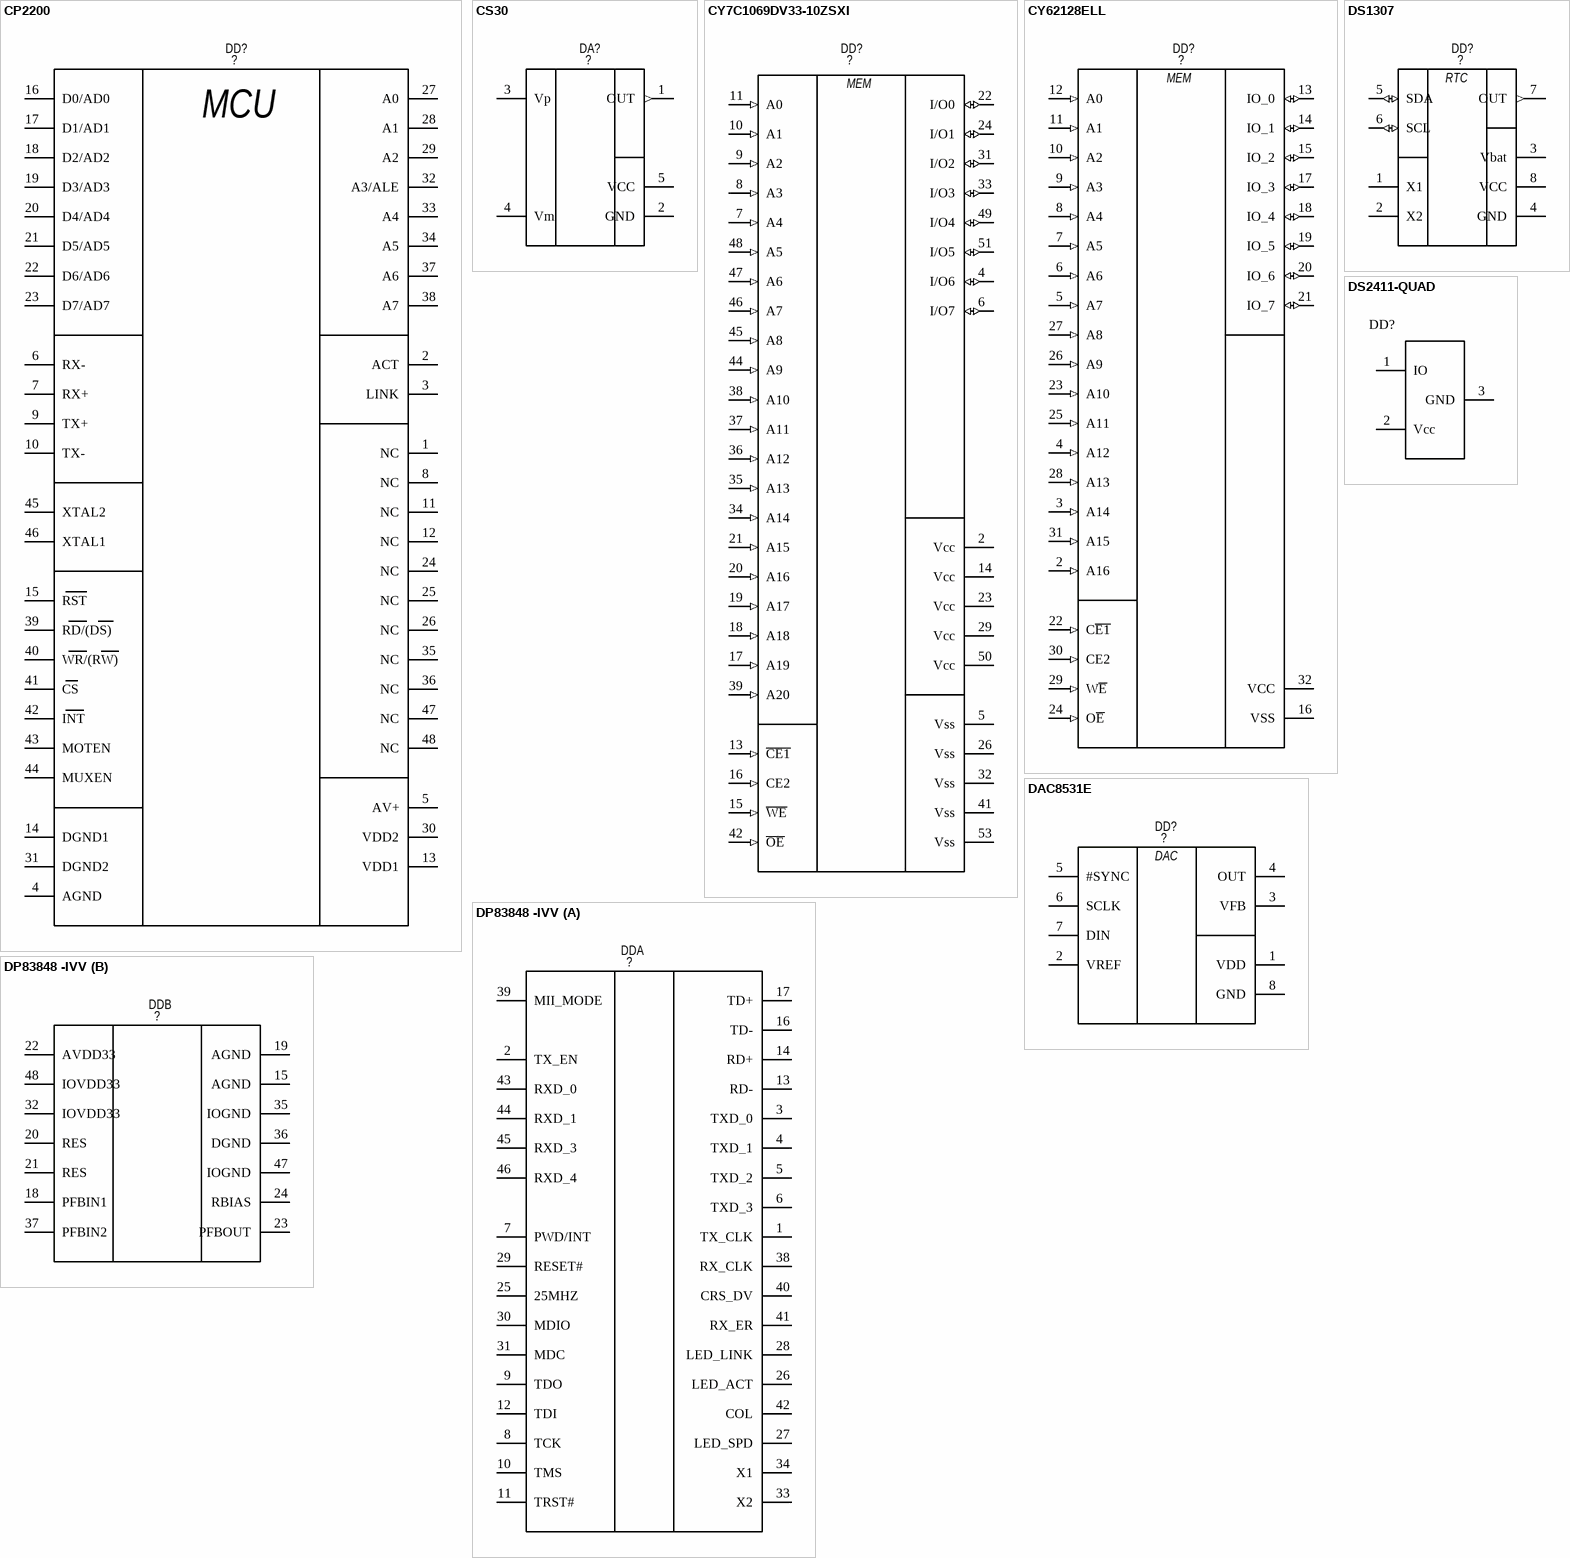
[diagram p7: symbols CP2200 to DS2411-QUAD]

## CP2200
designator DD?, comment ?
SINGLE-CHIP ETHERNET CONTROLLER; Type: ?; Value: ?
pins: 1 NC, 2 ACT, 3 LINK, 4 AGND, 5 AV+, 6 RX-, 7 RX+, 8 NC, 9 TX+, 10 TX-, 11 NC, 12 NC, 13 VDD1, 14 DGND1, 15 RST, 16 D0/AD0, 17 D1/AD1, 18 D2/AD2, 19 D3/AD3, 20 D4/AD4, 21 D5/AD5, 22 D6/AD6, 23 D7/AD7, 24 NC, 25 NC, 26 NC, 27 A0, 28 A1, 29 A2, 30 VDD2, 31 DGND2, 32 A3/ALE, 33 A4, 34 A5, 35 NC, 36 NC, 37 A6, 38 A7, 39 RD/(DS), 40 WR/(RW), 41 CS, 42 INT, 43 MOTEN, 44 MUXEN, 45 XTAL2, 46 XTAL1, 47 NC, 48 NC
text: MCU

## CS30
designator DA?, comment ?
High side current sense high voltage op amp; type: *; value: ?
pins: 1 OUT (out), 2 GND (power), 3 Vp, 4 Vm, 5 VCC (power)

## CY7C1069DV33-10ZSXI
designator DD?, comment ?
16-Mbit (2 M × 8) Static RAM; Type: ?; value: ?
pins: 2 Vcc (power), 4 I/O6 (io), 5 Vss (power), 6 I/O7 (io), 7 A4 (in), 8 A3 (in), 9 A2 (in), 10 A1 (in), 11 A0 (in), 13 ~{CE1} (in), 14 Vcc (power), 15 ~{WE} (in), 16 CE2 (in), 17 A19 (in), 18 A18 (in), 19 A17 (in), 20 A16 (in), 21 A15 (in), 22 I/O0 (io), 23 Vcc (power), 24 I/O1 (io), 26 Vss (power), 29 Vcc (power), 31 I/O2 (io), 32 Vss (power), 33 I/O3 (io), 34 A14 (in), 35 A13 (in), 36 A12 (in), 37 A11 (in), 38 A10 (in), 39 A20 (in), 41 Vss (power), 42 ~{OE} (in), 44 A9 (in), 45 A8 (in), 46 A7 (in), 47 A6 (in), 48 A5 (in), 49 I/O4 (io), 50 Vcc (power), 51 I/O5 (io), 53 Vss (power)
text: MEM

## CY62128ELL
designator DD?, comment ?
128Mb: x16 SDRAM; type: ?; value: ?
pins: 1 NC hidden, 2 A16 (in), 3 A14 (in), 4 A12 (in), 5 A7 (in), 6 A6 (in), 7 A5 (in), 8 A4 (in), 9 A3 (in), 10 A2 (in), 11 A1 (in), 12 A0 (in), 13 IO_0 (io), 14 IO_1 (io), 15 IO_2 (io), 16 VSS (power), 17 IO_3 (io), 18 IO_4 (io), 19 IO_5 (io), 20 IO_6 (io), 21 IO_7 (io), 22 C~{E1} (in), 23 A10 (in), 24 O~{E} (in), 25 A11 (in), 26 A9 (in), 27 A8 (in), 28 A13 (in), 29 W~{E} (in), 30 CE2 (in), 31 A15 (in), 32 VCC (power)
text: MEM

## DAC8531E
designator DD?, comment ?
Low-Power, Rail-to-Rail Output, 16-Bit Serial Input  DIGITAL-TO-ANALOG CONVERTER; Type: ?; Value: ?
pins: 1 VDD, 2 VREF, 3 VFB, 4 OUT, 5 #SYNC, 6 SCLK, 7 DIN, 8 GND
text: DAC

## DP83848 -IVV
designator DD, comment ?
Industrial Temperature Single Port 10/100 Mb/s Ethernet  Physical Layer Transceiver; Type: ?; Value: ?
part A pins: 1 TX_CLK, 2 TX_EN, 3 TXD_0, 4 TXD_1, 5 TXD_2, 6 TXD_3, 7 PWD/INT, 8 TCK, 9 TDO, 10 TMS, 11 TRST#, 12 TDI, 13 RD-, 14 RD+, 16 TD-, 17 TD+, 25 25MHZ, 26 LED_ACT, 27 LED_SPD, 28 LED_LINK, 29 RESET#, 30 MDIO, 31 MDC, 33 X2, 34 X1, 38 RX_CLK, 39 MII_MODE, 40 CRS_DV, 41 RX_ER, 42 COL, 43 RXD_0, 44 RXD_1, 45 RXD_3, 46 RXD_4
part B pins: 15 AGND, 18 PFBIN1, 19 AGND, 20 RES, 21 RES, 22 AVDD33, 23 PFBOUT, 24 RBIAS, 32 IOVDD33, 35 IOGND, 36 DGND, 37 PFBIN2, 47 IOGND, 48 IOVDD33

## DS1307
designator DD?, comment ?
I2C Real-Time Clock; type: ?; value: ?
footprint So-8
pins: 1 X1, 2 X2, 3 Vbat (power), 4 GND (power), 5 SDA (io), 6 SCL (io), 7 OUT (out), 8 VCC (power)
text: RTC

## DS2411-QUAD
designator DD?  (value not drawn)
PCB: SOT-23
pins: 1 IO, 2 Vcc, 3 GND

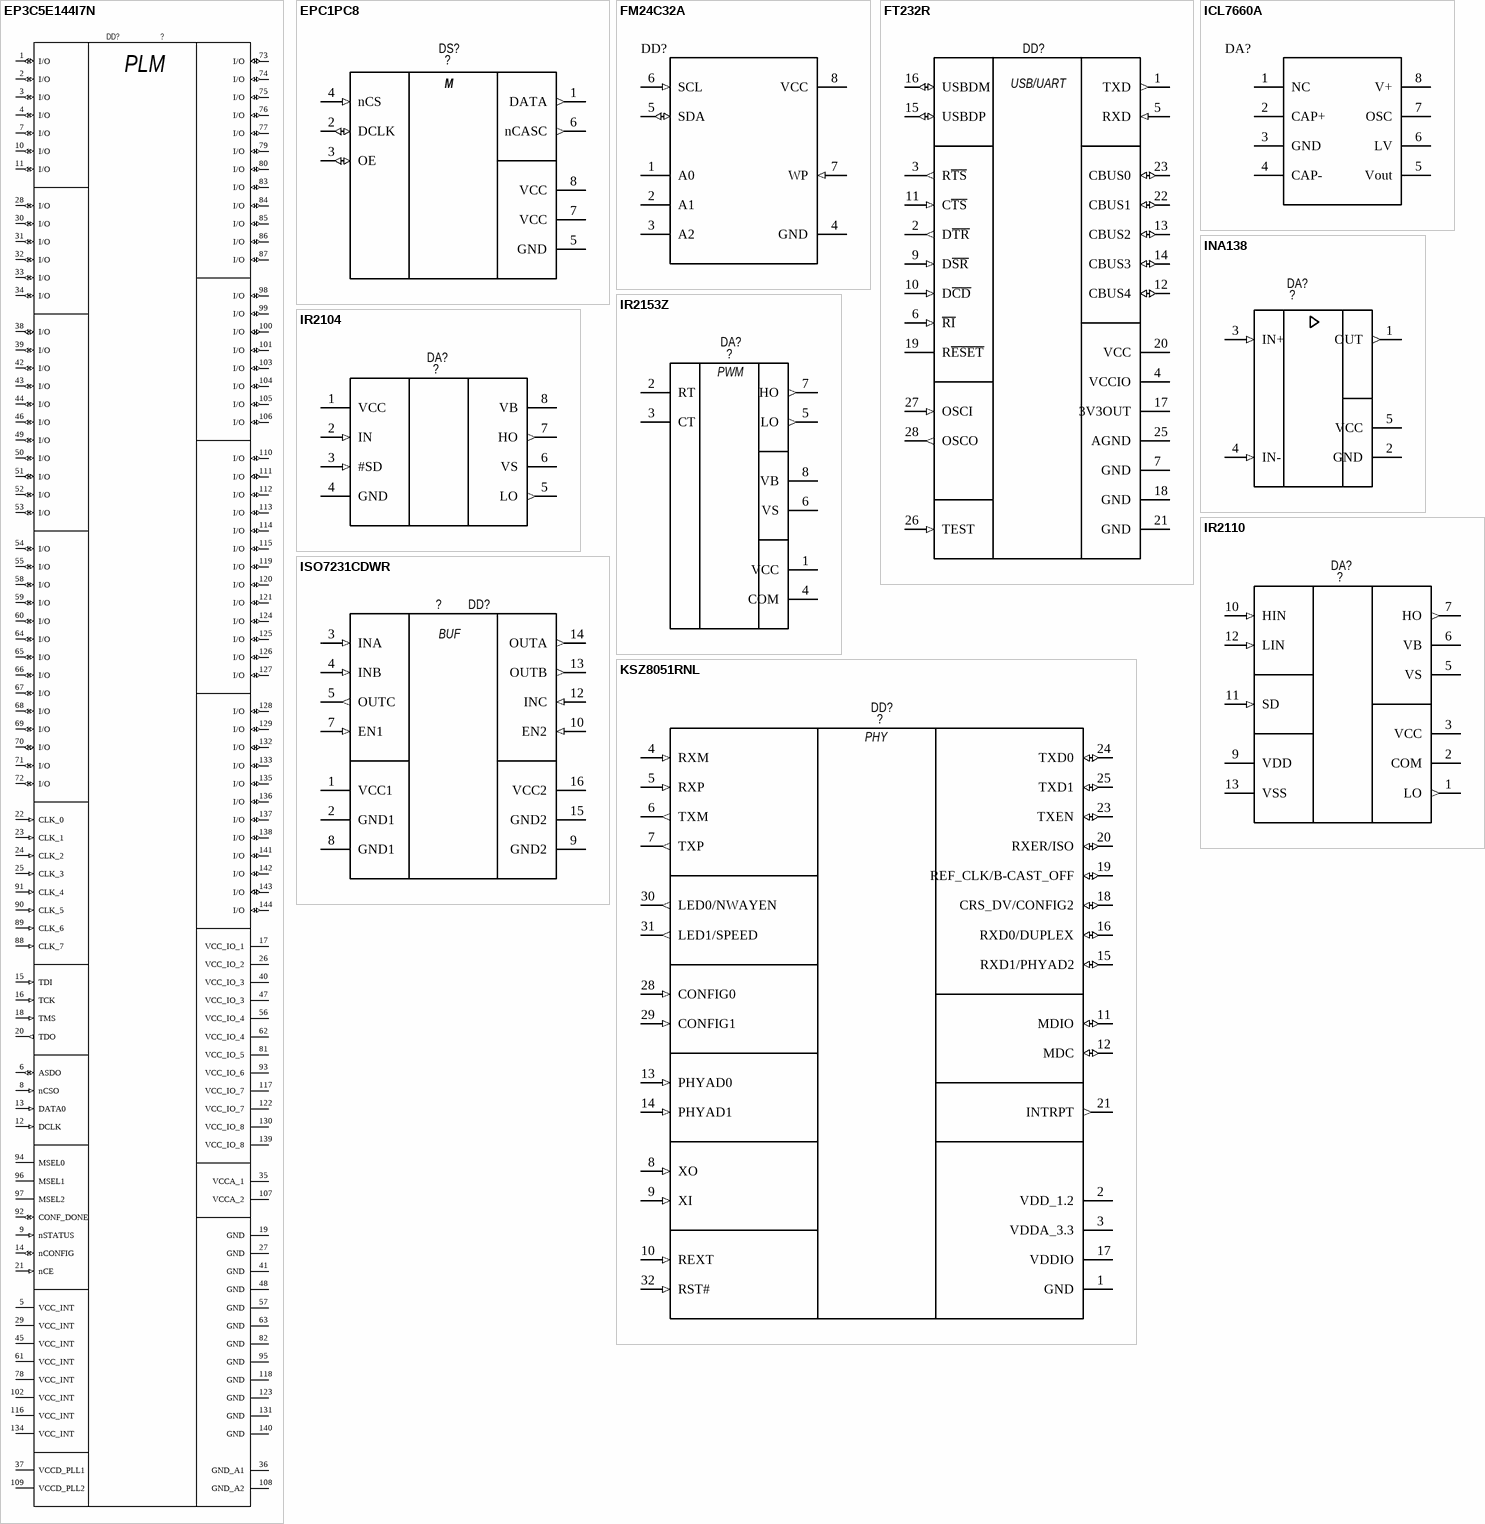
[diagram p8: symbols EP3C5E144I7N to KSZ8051RNL]

## EP3C5E144I7N
designator DD?, comment ?
FPGA; Type: ?; Value: ?
pins: 1 I/O (io) "GPIO", 2 I/O (io) "GPIO", 3 I/O (io) "GPIO", 4 I/O (io) "GPIO", 5 VCC_INT (power), 6 ASDO (io), 7 I/O (io) "GPIO", 8 nCSO (in), 9 nSTATUS (in), 10 I/O (io) "GPIO", 11 I/O (io) "GPIO", 12 DCLK (in), 13 DATA0 (in), 14 nCONFIG (io), 15 TDI (in) "JTAG", 16 TCK (in) "JTAG", 17 VCC_IO_1 (power), 18 TMS (in) "JTAG", 19 GND (power) "Power ground", 20 TDO (out) "JTAG", 21 nCE (in), 22 CLK_0 (in), 23 CLK_1 (in), 24 CLK_2 (in), 25 CLK_3 (in), 26 VCC_IO_2 (power), 27 GND (power) "Power ground", 28 I/O (io) "GPIO", 29 VCC_INT (power), 30 I/O (io) "GPIO", 31 I/O (io) "GPIO", 32 I/O (io) "GPIO", 33 I/O (io) "GPIO", 34 I/O (io) "GPIO", 35 VCCA_1 (power), 36 GND_A1 (power) "Power ground", 37 VCCD_PLL1 (power), 38 I/O (io) "GPIO", 39 I/O (io) "GPIO", 40 VCC_IO_3 (power), 41 GND (power) "Power ground", 42 I/O (io) "GPIO", 43 I/O (io) "GPIO", 44 I/O (io) "GPIO", 45 VCC_INT (power), 46 I/O (io) "GPIO", 47 VCC_IO_3 (power), 48 GND (power) "Power ground", 49 I/O (io) "GPIO", 50 I/O (io) "GPIO", 51 I/O (io) "GPIO", 52 I/O (io) "GPIO", 53 I/O (io) "GPIO", 54 I/O (io) "GPIO", 55 I/O (io) "GPIO", 56 VCC_IO_4 (power), 57 GND (power) "Power ground", 58 I/O (io) "GPIO", 59 I/O (io) "GPIO", 60 I/O (io) "GPIO", 61 VCC_INT (power), 62 VCC_IO_4 (power), 63 GND (power) "Power ground", 64 I/O (io) "GPIO", 65 I/O (io) "GPIO", 66 I/O (io) "GPIO", 67 I/O (io) "GPIO", 68 I/O (io) "GPIO", 69 I/O (io) "GPIO", 70 I/O (io) "GPIO", 71 I/O (io) "GPIO", 72 I/O (io) "GPIO", 73 I/O (io) "GPIO", 74 I/O (io) "GPIO", 75 I/O (io) "GPIO", 76 I/O (io) "GPIO", 77 I/O (io) "GPIO", 78 VCC_INT (power), 79 I/O (io) "GPIO", 80 I/O (io) "GPIO", 81 VCC_IO_5 (power), 82 GND (power) "Power ground", 83 I/O (io) "GPIO", 84 I/O (io) "GPIO", 85 I/O (io) "GPIO", 86 I/O (io) "GPIO", 87 I/O (io) "GPIO", 88 CLK_7 (in), 89 CLK_6 (in), 90 CLK_5 (in), 91 CLK_4 (in), 92 CONF_DONE (io), 93 VCC_IO_6 (power), 94 MSEL0, 95 GND (power) "Power ground", 96 MSEL1, 97 MSEL2, 98 I/O (io) "GPIO", 99 I/O (io) "GPIO", 100 I/O (io) "GPIO", 101 I/O (io) "GPIO", 102 VCC_INT (power), 103 I/O (io) "GPIO", 104 I/O (io) "GPIO", 105 I/O (io) "GPIO", 106 I/O (io) "GPIO", 107 VCCA_2 (power), 108 GND_A2 (power) "Power ground", 109 VCCD_PLL2 (power), 110 I/O (io) "GPIO", 111 I/O (io) "GPIO", 112 I/O (io) "GPIO", 113 I/O (io) "GPIO", 114 I/O (io) "GPIO", 115 I/O (io) "GPIO", 116 VCC_INT (power), 117 VCC_IO_7 (power), 118 GND (power) "Power ground", 119 I/O (io) "GPIO", 120 I/O (io) "GPIO", 121 I/O (io) "GPIO", 122 VCC_IO_7 (power), 123 GND (power) "Power ground", 124 I/O (io) "GPIO", 125 I/O (io) "GPIO", 126 I/O (io) "GPIO", 127 I/O (io) "GPIO", 128 I/O (io) "GPIO", 129 I/O (io) "GPIO", 130 VCC_IO_8 (power), 131 GND (power) "Power ground", 132 I/O (io) "GPIO", 133 I/O (io) "GPIO", 134 VCC_INT (power), 135 I/O (io) "GPIO", 136 I/O (io) "GPIO", 137 I/O (io) "GPIO", 138 I/O (io) "GPIO", 139 VCC_IO_8 (power), 140 GND (power) "Power ground", 141 I/O (io) "GPIO", 142 I/O (io) "GPIO", 143 I/O (io) "GPIO", 144 I/O (io) "GPIO"
text: PLM

## EPC1PC8
designator DS?, comment ?
Configuration Devices for SRAM-Based; Type: ?; Value: ?
pins: 1 DATA (out), 2 DCLK (io), 3 OE (io), 4 nCS (in), 5 GND, 6 nCASC (out), 7 VCC, 8 VCC
text: M

## FM24C32A
designator DD?
EEPROM I2C память
footprint So-8
pins: 1 A0, 2 A1, 3 A2, 4 GND, 5 SDA (io), 6 SCL (in), 7 WP (in), 8 VCC

## FT232R
designator DD?  (value not drawn)
USB to serial UART interface; Type: ?; Value: ?; price: 100
footprint SSOP-28
pins: 1 TXD (out), 2 D~{TR} (out), 3 R~{TS} (out), 4 VCCIO (power), 5 RXD (in), 6 ~{RI}  (in), 7 GND (power), 8 NC hidden, 9 D~{SR} (in), 10 D~{CD} (in), 11 C~{TS} (in), 12 CBUS4 (io), 13 CBUS2 (io), 14 CBUS3 (io), 15 USBDP (io), 16 USBDM (io), 17 3V3OUT (power), 18 GND (power), 19 R~{ESET}, 20 VCC (power), 21 GND (power), 22 CBUS1 (io), 23 CBUS0 (io), 24 NC hidden, 25 AGND (power), 26 TEST (in), 27 OSCI (in), 28 OSCO (out)
text: USB/UART

## ICL7660A
designator DA?  (value not drawn)
footprint So-8
pins: 1 NC, 2 CAP+, 3 GND, 4 CAP-, 5 Vout, 6 LV, 7 OSC, 8 V+

## INA138
designator DA?, comment ?
High-Side Measurement Current Shunt Monitor; Type: ?; value: ?
pins: 1 OUT (out), 2 GND (power), 3 IN+ (in), 4 IN- (in), 5 VCC (power)

## IR2104
designator DA?, comment ?
HALF-BRIDGE DRIVER; type: ?; Value: ?
pins: 1 VCC (power), 2 IN (in), 3 #SD (in), 4 GND (power), 5 LO (out), 6 VS (power), 7 HO (out), 8 VB (power)

## IR2110
designator DA?, comment ?
HIGH AND LOW SIDE DRIVER; type: ?; Value: ?
pins: 1 LO (out), 2 COM (power), 3 VCC (power), 5 VS (power), 6 VB (power), 7 HO (out), 9 VDD (power), 10 HIN (in), 11 SD (in), 12 LIN (in), 13 VSS (power)

## IR2153Z
designator DA?, comment ?
SELF-OSCILLATING HALF-BRIDGE DRIVER; Type: ?; Value: ?
pins: 1 VCC (power), 2 RT, 3 CT, 4 COM (power), 5 LO (out), 6 VS (power), 7 HO (out), 8 VB (power)
text: PWM

## ISO7231CDWR
designator DD?, comment ?
HIGH SPEED, TRIPLE DIGITAL ISOLATORS; Type: ?; Value: ?
pins: 1 VCC1 (power), 2 GND1 (power), 3 INA (in), 4 INB (in), 5 OUTC (out), 6 NC1 hidden, 7 EN1 (in), 8 GND1 (power), 9 GND2 (power), 10 EN2 (in), 11 NC2 hidden, 12 INC (in), 13 OUTB (out), 14 OUTA (out), 15 GND2 (power), 16 VCC2 (power)
text: BUF

## KSZ8051RNL
designator DD?, comment ?
10Base-T/100Base-TX Physical Layer Transceiver; Type: ?; Value: ?
pins: 1 GND (power), 2 VDD_1.2 (power), 3 VDDA_3.3 (power), 4 RXM (in), 5 RXP (in), 6 TXM (out), 7 TXP (out), 8 XO (in), 9 XI (in), 10 REXT (in), 11 MDIO (io), 12 MDC (io), 13 PHYAD0 (in), 14 PHYAD1 (in), 15 RXD1/PHYAD2 (io), 16 RXD0/DUPLEX (io), 17 VDDIO (power), 18 CRS_DV/CONFIG2 (io), 19 REF_CLK/B-CAST_OFF (io), 20 RXER/ISO (io), 21 INTRPT (out), 22 NC hidden, 23 TXEN (io), 24 TXD0 (io), 25 TXD1 (io), 26 NC hidden, 27 NC hidden, 28 CONFIG0 (in), 29 CONFIG1 (in), 30 LED0/NWAYEN (out), 31 LED1/SPEED (out), 32 RST# (in)
text: PHY

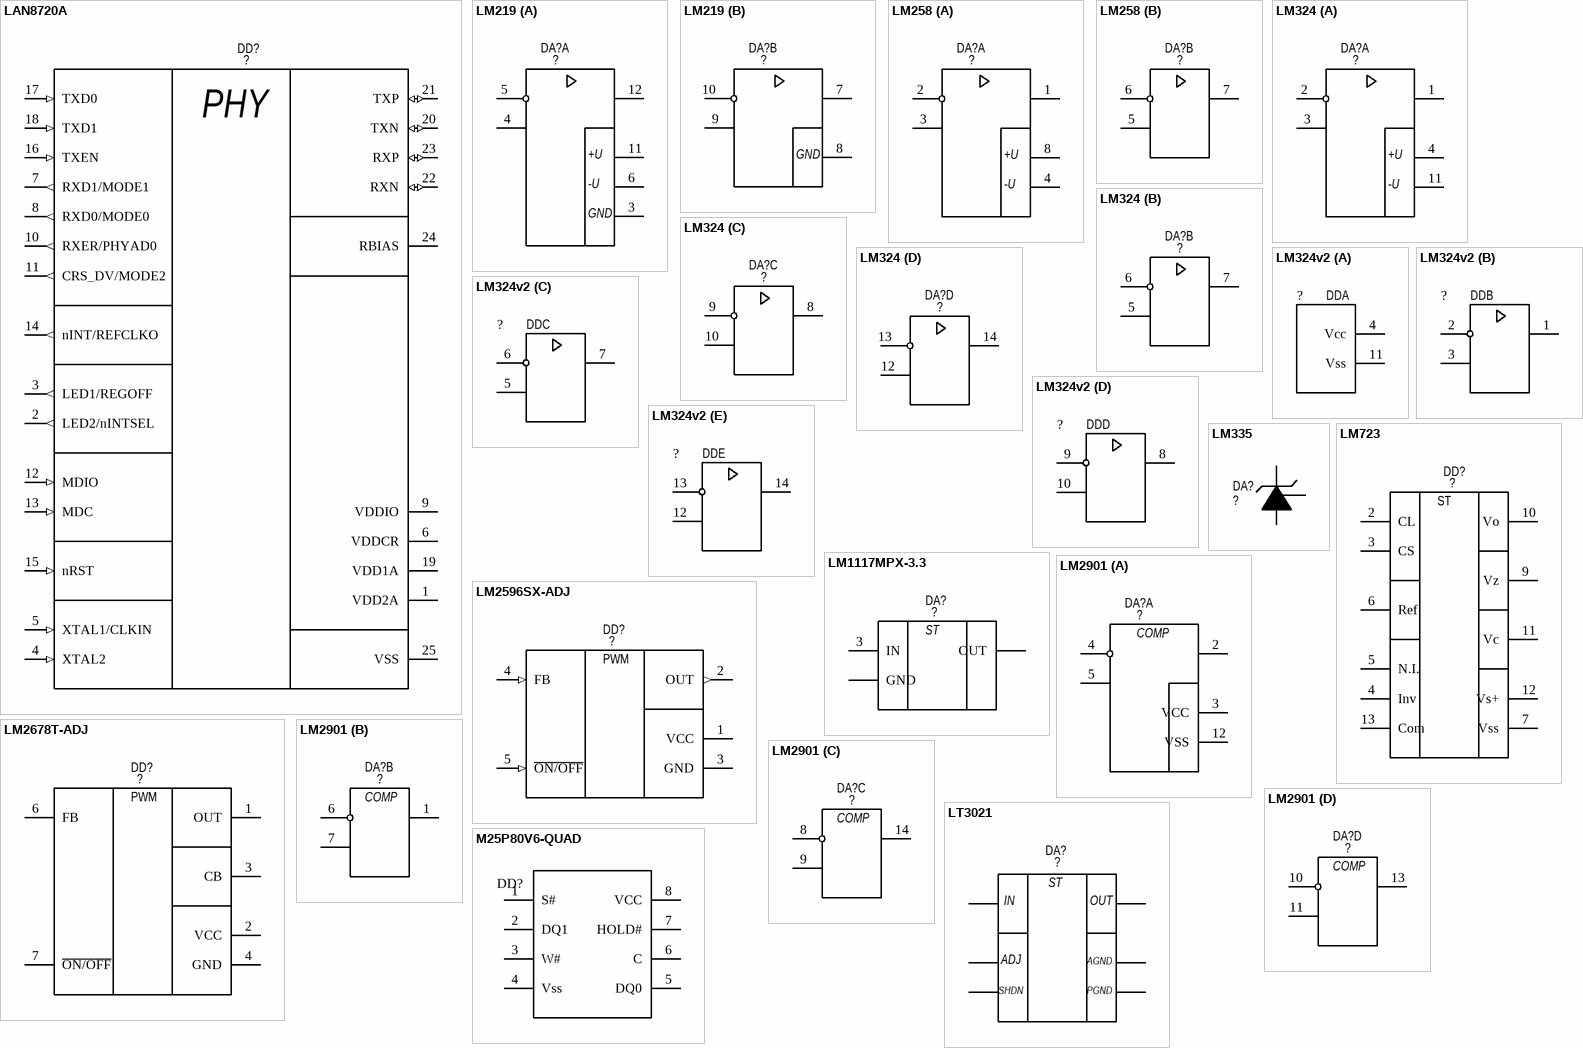
[diagram p9: symbols LAN8720A to M25P80V6-QUAD]

## LAN8720A
designator DD?, comment ?
uC with 16 MHz STM8S 8-bit MCU, 8 Kbytes Flash, 128 bytes  data EEPROM, 10-bit ADC, 3 timers, UART, SPI, I2C; type: ?; value: ?
pins: 1 VDD2A (power), 2 LED2/nINTSEL (out), 3 LED1/REGOFF (out), 4 XTAL2 (in), 5 XTAL1/CLKIN (in), 6 VDDCR (power), 7 RXD1/MODE1 (out), 8 RXD0/MODE0 (out), 9 VDDIO (power), 10 RXER/PHYAD0 (out), 11 CRS_DV/MODE2 (out), 12 MDIO (in), 13 MDC (in), 14 nINT/REFCLKO (out), 15 nRST (in), 16 TXEN (in), 17 TXD0 (in), 18 TXD1 (in), 19 VDD1A (power), 20 TXN (io), 21 TXP (io), 22 RXN (io), 23 RXP (io), 24 RBIAS, 25 VSS (power)
text: PHY

## LM219
designator DA?, comment ?
Low Power Quad Operational Amplifiers; Type: ?; Value: ?
part A pins: 3 U- (power), 4 IN1+, 5 IN1-, 6 U- (power), 11 U+ (power), 12 OUT1
part B pins: 7 OUT1, 8 U- (power), 9 IN1+, 10 IN1-
part A text: +U; -U; GND
part B text: GND

## LM258
designator DA?, comment ?
Type: ?; Value: ?
part A pins: 1 OUT1, 2 IN1-, 3 IN1+, 4 U-, 8 U+
part B pins: 5 IN2+, 6 IN2-, 7 OUT2
part A text: +U; -U

## LM324
designator DA?, comment ?
Low Power Quad Operational Amplifiers; Type: ?; Value: ?
part A pins: 1 OUT1, 2 IN1-, 3 IN1+, 4 U+ (power), 11 U- (power)
part B pins: 5 IN2+, 6 IN2-, 7 OUT2
part C pins: 8 OUT3, 9 IN3-, 10 IN3+
part D pins: 12 IN4+, 13 IN4-, 14 OUT4
part A text: +U; -U

## LM324v2
designator DD, comment ?
Low Power Quad Operational Amplifiers; Type: ?; Value: ?
part A pins: 4 Vcc, 11 Vss
part B pins: 1 out, 2 U-, 3 U+
part C pins: 5 U+, 6 U-, 7 out
part D pins: 8 out, 9 U-, 10 U+
part E pins: 12 U+, 13 U-, 14 out

## LM335
designator DA?, comment ?
Precision temperature sensors; Type: ?; value: ?
pins: 1 ADJ, 2 V+, 3 V-

## LM723
designator DD?, comment ?
HIGH PRECISION VOLTAGE REGULATOR; type: *; value: ?
pins: 1 NC hidden, 2 CL, 3 CS, 4 Inv, 5 N.I., 6 Ref, 7 Vss, 8 NC hidden, 9 Vz, 10 Vo, 11 Vc, 12 Vs+, 13 Com, 14 NC hidden
text: ST

## LM1117MPX-3.3
designator DA?, comment ?
Type: ?; Value: ?
footprint TO-263(D2PAK)
pins: 1 GND, 2 OUT, 3 IN
text: ST

## LM2596SX-ADJ
designator DD?, comment ?
Power Converter 150 kHz  3A Step-Down Voltage Regulator; type: ?; value: ?
pins: 1 VCC (power), 2 OUT (out), 3 GND (power), 4 FB (in), 5 ~{ON/OFF} (in)
text: PWM

## LM2678T-ADJ
designator DD?, comment ?
Power Converter 150 kHz  3A Step-Down Voltage Regulator; type: ?; value: ?
pins: 1 OUT (power), 2 VCC (power), 3 CB, 4 GND (power), 6 FB, 7 ~{ON/OFF}
text: PWM

## LM2901
designator DA?, comment ?
Type: ?; Value: ?
part A pins: 2 OUT1, 3 VCC, 4 IN1-, 5 IN1+, 12 VSS
part B pins: 1 OUT2, 6 IN2-, 7 IN2+
part C pins: 8 IN3-, 9 IN3+, 14 OUT3
part D pins: 10 IN4-, 11 IN4+, 13 OUT4
part A text: COMP
part B text: COMP
part C text: COMP
part D text: COMP

## LT3021
designator DA?, comment ?
Low Voltage,  Very Low Dropout  Linear Regulator; Type: ?; Value: ?
pins: ADJ, AGND, IN, OUT, PGND, SHDN
text: ST

## M25P80V6-QUAD
designator DD?  (value not drawn)
PCB: SO8W 208 mils Body Width
pins: 1 S#, 2 DQ1, 3 W#, 4 Vss, 5 DQ0, 6 C, 7 HOLD#, 8 VCC

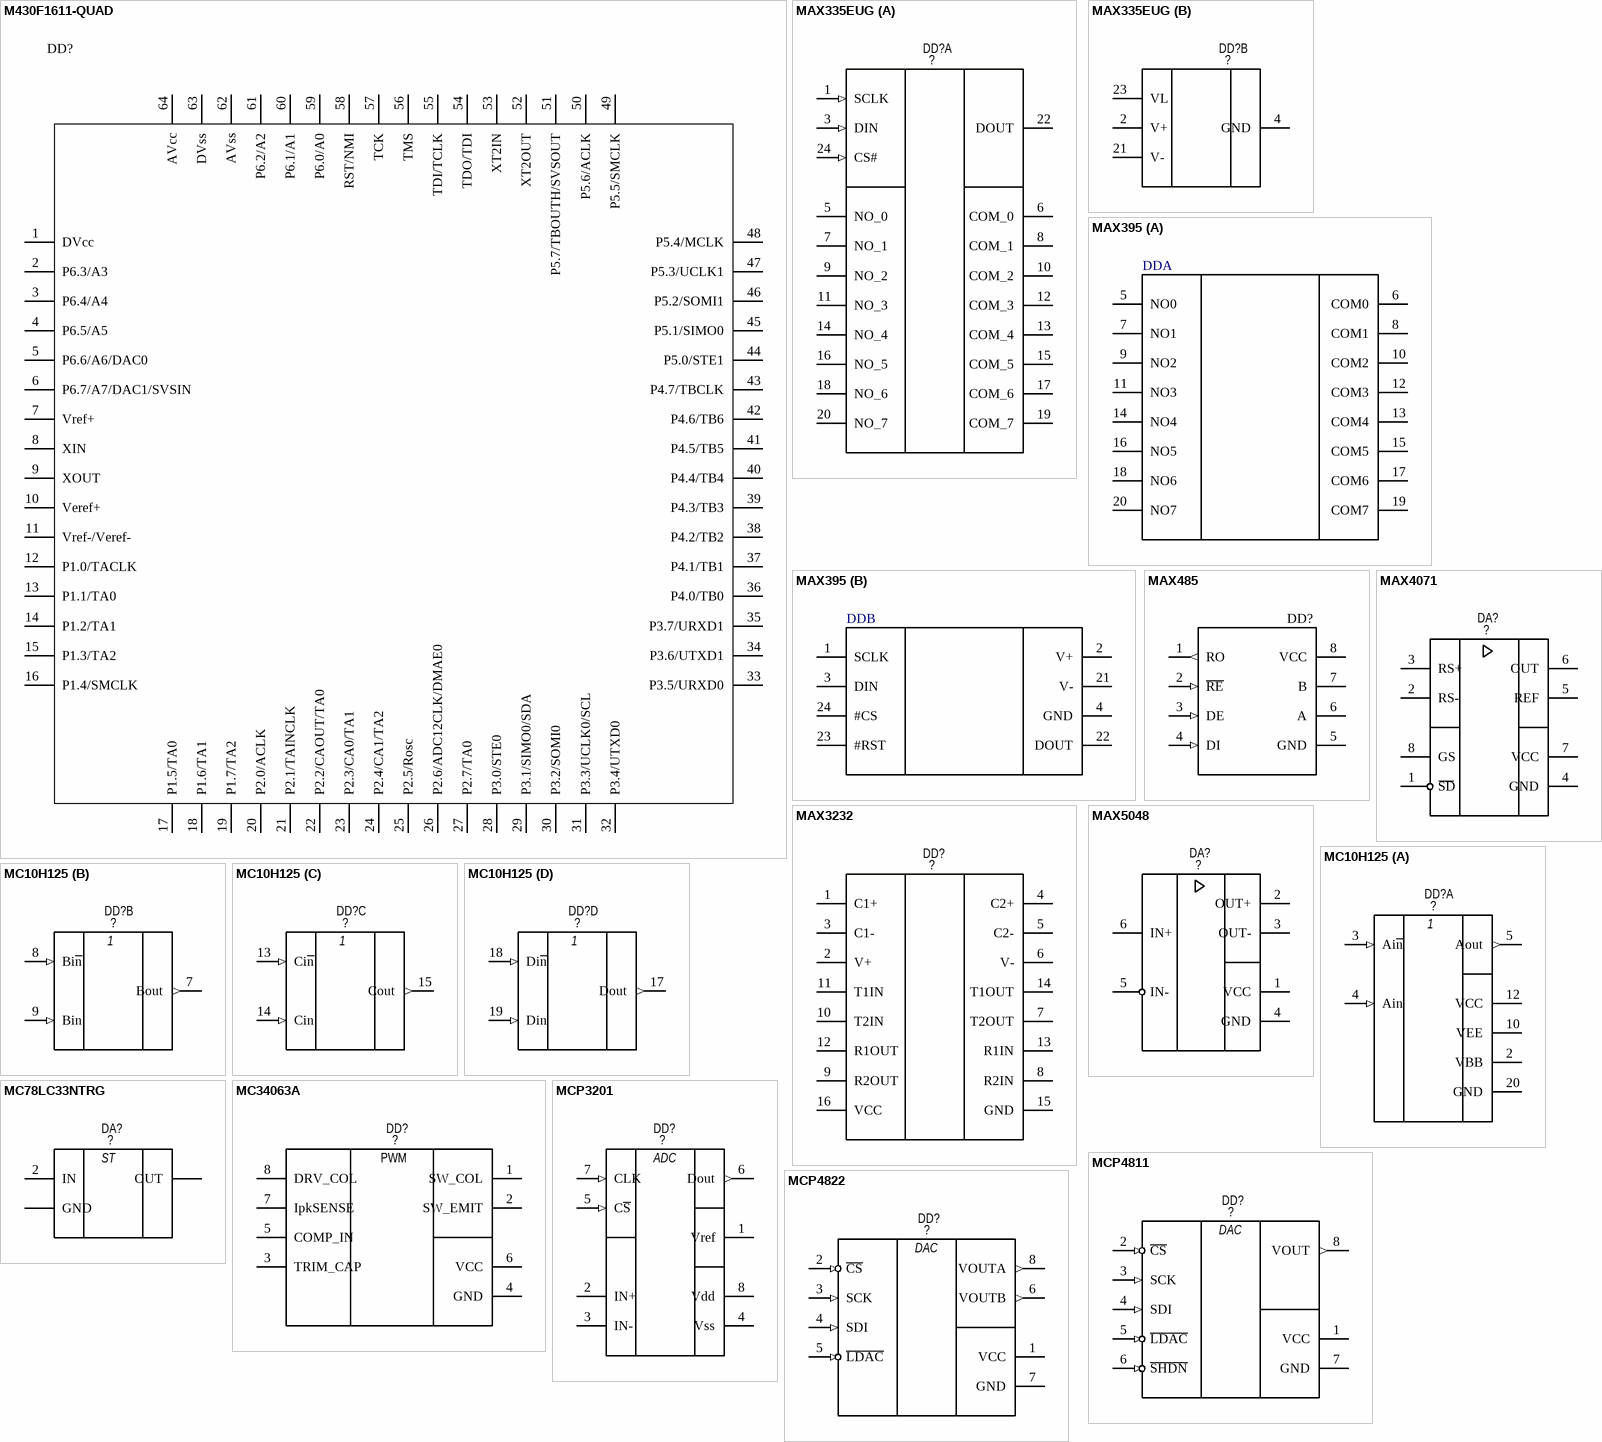
[diagram p10: symbols M430F1611-QUAD to MCP4822]

## M430F1611-QUAD
designator DD?  (value not drawn)
pins: 1 DVcc, 2 P6.3/A3, 3 P6.4/A4, 4 P6.5/A5, 5 P6.6/A6/DAC0, 6 P6.7/A7/DAC1/SVSIN, 7 Vref+, 8 XIN, 9 XOUT, 10 Veref+, 11 Vref-/Veref-, 12 P1.0/TACLK, 13 P1.1/TA0, 14 P1.2/TA1, 15 P1.3/TA2, 16 P1.4/SMCLK, 17 P1.5/TA0, 18 P1.6/TA1, 19 P1.7/TA2, 20 P2.0/ACLK, 21 P2.1/TAINCLK, 22 P2.2/CAOUT/TA0, 23 P2.3/CA0/TA1, 24 P2.4/CA1/TA2, 25 P2.5/Rosc, 26 P2.6/ADC12CLK/DMAE0, 27 P2.7/TA0, 28 P3.0/STE0, 29 P3.1/SIMO0/SDA, 30 P3.2/SOMI0, 31 P3.3/UCLK0/SCL, 32 P3.4/UTXD0, 33 P3.5/URXD0, 34 P3.6/UTXD1, 35 P3.7/URXD1, 36 P4.0/TB0, 37 P4.1/TB1, 38 P4.2/TB2, 39 P4.3/TB3, 40 P4.4/TB4, 41 P4.5/TB5, 42 P4.6/TB6, 43 P4.7/TBCLK, 44 P5.0/STE1, 45 P5.1/SIMO0, 46 P5.2/SOMI1, 47 P5.3/UCLK1, 48 P5.4/MCLK, 49 P5.5/SMCLK, 50 P5.6/ACLK, 51 P5.7/TBOUTH/SVSOUT, 52 XT2OUT, 53 XT2IN, 54 TDO/TDI, 55 TDI/TCLK, 56 TMS, 57 TCK, 58 RST/NMI, 59 P6.0/A0, 60 P6.1/A1, 61 P6.2/A2, 62 AVss, 63 DVss, 64 AVcc

## MAX335EUG
designator DD?, comment ?
Serial Controlled, 8-Channel SPST Switch; Type: ?; Value: ?
part A pins: 1 SCLK (in), 3 DIN (in), 5 NO_0, 6 COM_0, 7 NO_1, 8 COM_1, 9 NO_2, 10 COM_2, 11 NO_3, 12 COM_3, 13 COM_4, 14 NO_4, 15 COM_5, 16 NO_5, 17 COM_6, 18 NO_6, 19 COM_7, 20 NO_7, 22 DOUT, 24 CS# (in)
part B pins: 2 V+, 4 GND, 21 V-, 23 VL

## MAX395
designator DD, comment Comment  (value not drawn)
part A pins: 5 NO0, 6 COM0, 7 NO1, 8 COM1, 9 NO2, 10 COM2, 11 NO3, 12 COM3, 13 COM4, 14 NO4, 15 COM5, 16 NO5, 17 COM6, 18 NO6, 19 COM7, 20 NO7
part B pins: 1 SCLK, 2 V+, 3 DIN, 4 GND, 21 V-, 22 DOUT, 23 #RST, 24 #CS

## MAX485
designator DD?  (value not drawn)
RS485 Driver; price: 6
footprint So-8
pins: 1 RO (out), 2 ~{RE} (in), 3 DE (in), 4 DI (in), 5 GND, 6 A, 7 B, 8 VCC

## MAX3232
designator DD?, comment ?
True RS-232 Transceivers; Type: ?; value: ?
pins: 1 C1+, 2 V+, 3 C1-, 4 C2+, 5 C2-, 6 V-, 7 T2OUT, 8 R2IN, 9 R2OUT, 10 T2IN, 11 T1IN, 12 R1OUT, 13 R1IN, 14 T1OUT, 15 GND, 16 VCC

## MAX4071
designator DA?, comment ?
Bidirectional, High-Side, Current-Sense  Amplifiers with Reference; Type: ?; Value: ?
pins: 1 SD, 2 RS-, 3 RS+, 4 GND, 5 REF, 6 OUT, 7 VCC, 8 GS

## MAX5048
designator DA?, comment ?
MOSFET Driver; Type: ?; Value: ?
pins: 1 VCC, 2 OUT+, 3 OUT-, 4 GND, 5 IN-, 6 IN+

## MC10H125
designator DD?, comment ?
Quad 2-input OR gate; Type: ?; Value: ?
part A pins: 1 NC hidden, 2 VBB (power), 3 Ai~{n} (in), 4 Ain (in), 5 Aout (out), 6 NC hidden, 10 VEE (power), 11 NC hidden, 12 VCC (power), 16 NC hidden, 20 GND (power)
part B pins: 7 Bout (out), 8 Bi~{n} (in), 9 Bin (in)
part C pins: 13 Ci~{n} (in), 14 Cin (in), 15 Cout (out)
part D pins: 17 Dout (out), 18 Di~{n} (in), 19 Din (in)

## MC78LC33NTRG
designator DA?, comment ?
Type: ?; Value: ?
footprint TO-263(D2PAK)
footprint SOT-23-5
pins: 1 GND, 2 IN, 3 OUT
text: ST

## MC34063A
designator DD?, comment ?
Step-Up/Down/  Inverting Switching  Regulators; Type: ?; Value: ?
pins: 1 SW_COL, 2 SW_EMIT, 3 TRIM_CAP, 4 GND, 5 COMP_IN, 6 VCC, 7 IpkSENSE, 8 DRV_COL
text: PWM

## MCP3201
designator DD?, comment ?
12-Bit A/D Converter with SPI; Type: ?; Value: ?
pins: 1 Vref, 2 IN+, 3 IN-, 4 Vss (power), 5 C~{S} (in), 6 Dout (out), 7 CLK (in), 8 Vdd (power)
text: ADC

## MCP4811
designator DD?, comment ?
1x 10bit DAC; Type: ?; Value: ?
pins: 1 VCC (power), 2 ~{CS} (in), 3 SCK (in), 4 SDI (in), 5 ~{LDAC} (in), 6 ~{SHDN} (in), 7 GND (power), 8 VOUT (out)
text: DAC

## MCP4822
designator DD?, comment ?
2x 12bit DAC; Type: ?; Value: ?
pins: 1 VCC (power), 2 ~{CS} (in), 3 SCK (in), 4 SDI (in), 5 ~{LDAC} (in), 6 VOUTB (out), 7 GND (power), 8 VOUTA (out)
text: DAC

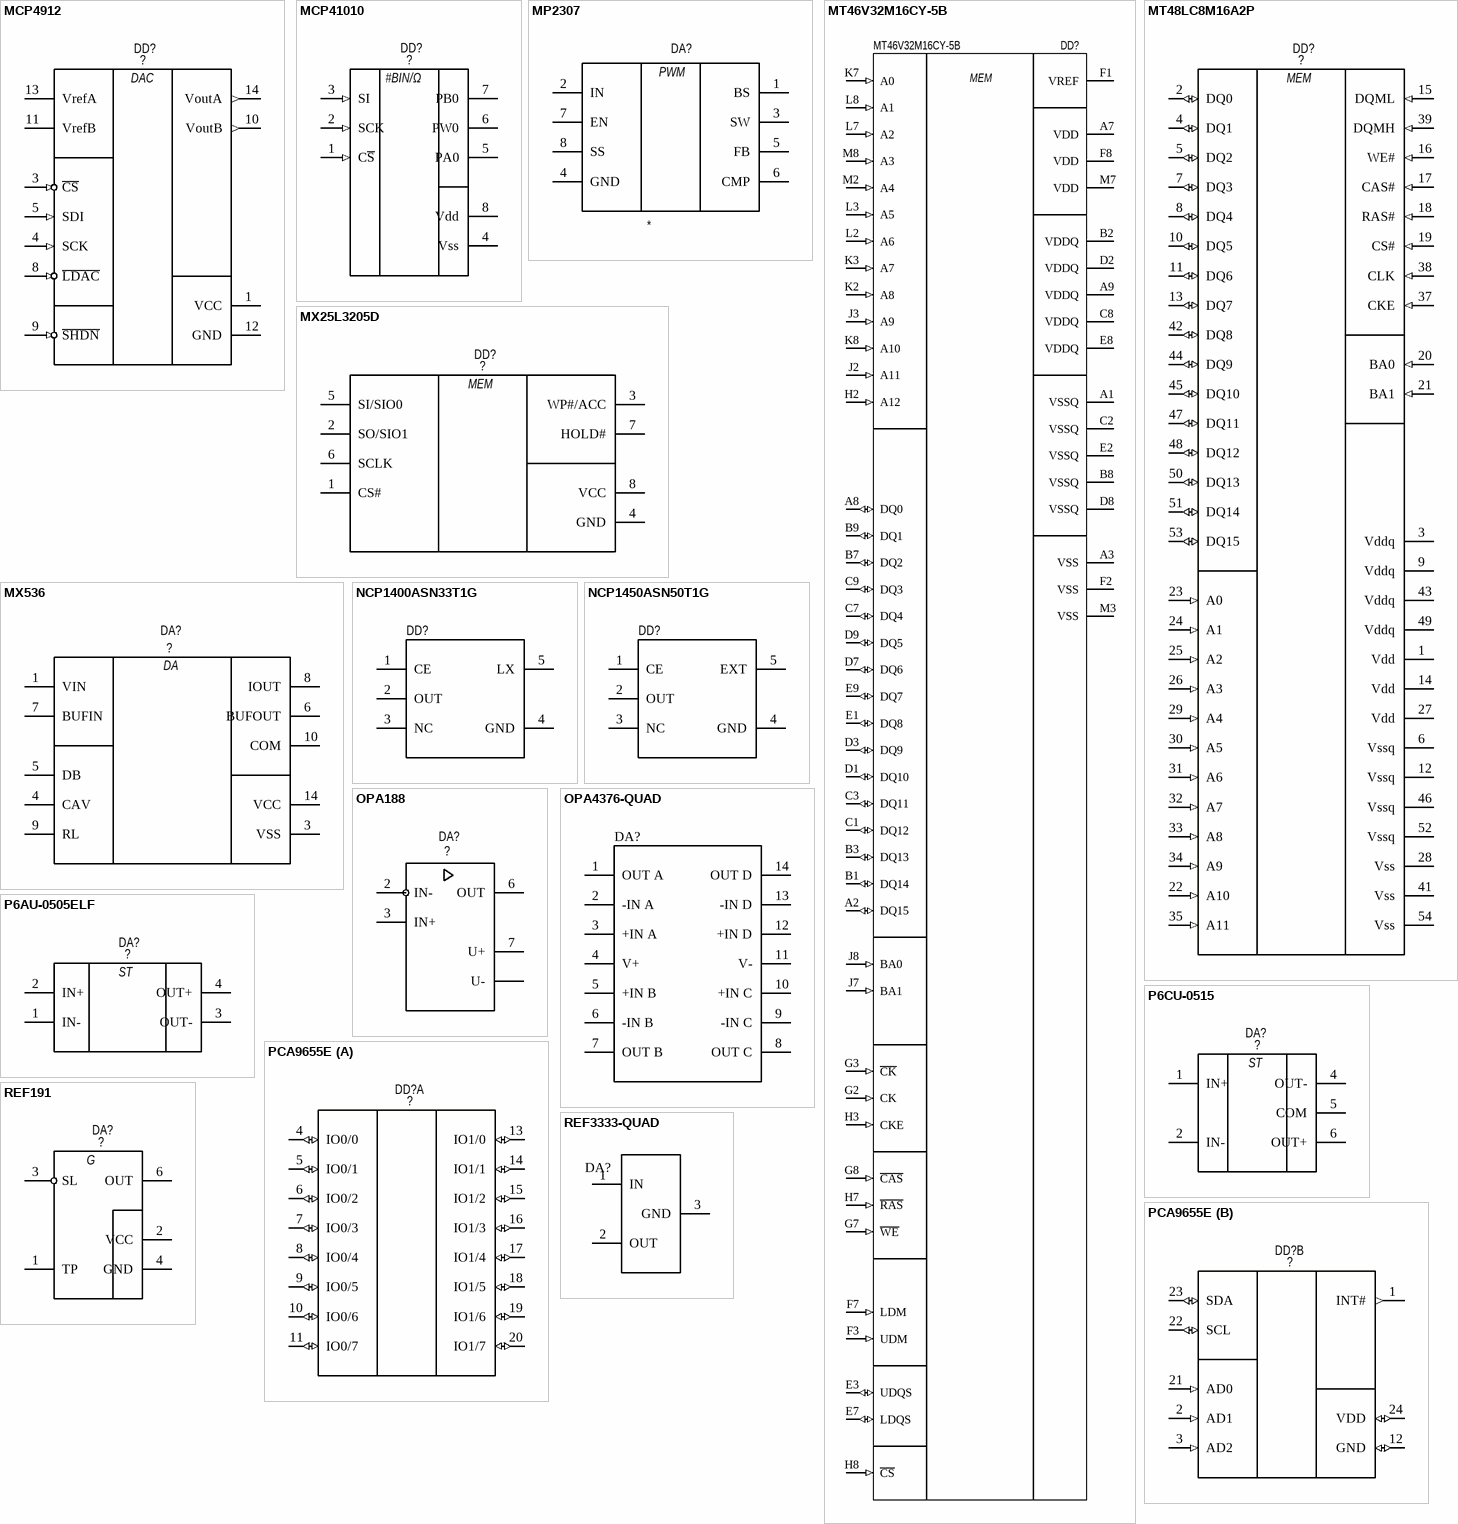
[diagram p11: symbols MCP4912 to REF3333-QUAD]

## MCP4912
designator DD?, comment ?
2x 10bit DAC; Type: ?; Value: ?
pins: 1 VCC (power), 3 ~{CS} (in), 4 SCK (in), 5 SDI (in), 8 ~{LDAC} (in), 9 ~{SHDN} (in), 10 VoutB (out), 11 VrefB (power), 12 GND (power), 13 VrefA (power), 14 VoutA (out)
text: DAC

## MCP41010
designator DD?, comment ?
Single Digital Potentiometer With SPI; Type: ?; Value: ?
pins: 1 C~{S} (in), 2 SCK (in), 3 SI (in), 4 Vss (power), 5 PA0, 6 PW0, 7 PB0, 8 Vdd (power)
text: #BIN/Ω

## MP2307
designator DA?
type: *; value: *
footprint PowerSO-8 (SOP, 8-Leads, Body 4,90x3,90mm, Pitch 1,27mm, IPC Medium Density)
pins: 1 BS, 2 IN, 3 SW, 4 GND, 5 FB, 6 CMP, 7 EN, 8 SS
text: PWM

## MT46V32M16CY-5B
designator DD?
512 Meg DDR SDRAM
pins: A1 VSSQ (power), A2 DQ15 (io), A3 VSS (power), A7 VDD (power), A8 DQ0 (io), A9 VDDQ (power), B1 DQ14 (io), B2 VDDQ (power), B3 DQ13 (io), B7 DQ2 (io), B8 VSSQ (power), B9 DQ1 (io), C1 DQ12 (io), C2 VSSQ (power), C3 DQ11 (io), C7 DQ4 (io), C8 VDDQ (power), C9 DQ3 (io), D1 DQ10 (io), D2 VDDQ (power), D3 DQ9 (io), D7 DQ6 (io), D8 VSSQ (power), D9 DQ5 (io), E1 DQ8 (io), E2 VSSQ (power), E3 UDQS (io), E7 LDQS (io), E8 VDDQ (power), E9 DQ7 (io), F1 VREF (power), F2 VSS (power), F3 UDM (in), F7 LDM (in), F8 VDD (power), G2 CK (in), G3 ~{CK} (in), G7 ~{WE} (in), G8 ~{CAS} (in), H2 A12 (in), H3 CKE (in), H7 ~{RAS} (in), H8 ~{CS} (in), J2 A11 (in), J3 A9 (in), J7 BA1 (in), J8 BA0 (in), K2 A8 (in), K3 A7 (in), K7 A0 (in), K8 A10 (in), L2 A6 (in), L3 A5 (in), L7 A2 (in), L8 A1 (in), M2 A4 (in), M3 VSS (power), M7 VDD (power), M8 A3 (in)
text: MEM

## MT48LC8M16A2P
designator DD?, comment ?
128Mb: x16 SDRAM; type: ?; value: ?
pins: 1 Vdd (power) "Power supply: 3.3V ±0.3V.", 2 DQ0 (io) "Data input/output", 3 Vddq (power) "DQ power: Isolated DQ power to the die for improved noise immunity.", 4 DQ1 (io) "Data input/output", 5 DQ2 (io) "Data input/output", 6 Vssq (power), 7 DQ3 (io) "Data input/output", 8 DQ4 (io) "Data input/output", 9 Vddq (power) "DQ power: Isolated DQ power to the die for improved noise immunity.", 10 DQ5 (io) "Data input/output", 11 DQ6 (io) "Data input/output", 12 Vssq (power) "DQ ground: Isolated DQ ground to the die for improved noise immunity.", 13 DQ7 (io) "Data input/output", 14 Vdd (power) "Power supply: 3.3V ±0.3V.", 15 DQML (in) "Input/output mask", 16 WE# (in) "Command input", 17 CAS# (in) "Command input", 18 RAS# (in) "Command input", 19 CS# (in) "Chip select", 20 BA0 (in) "Bank address input(s)", 21 BA1 (in) "Bank address input(s)", 22 A10 (in) "Address inputs", 23 A0 (in) "Address inputs", 24 A1 (in) "Address inputs", 25 A2 (in) "Address inputs", 26 A3 (in) "Address inputs", 27 Vdd (power) "Power supply: 3.3V ±0.3V.", 28 Vss (power) "Ground", 29 A4 (in) "Address inputs", 30 A5 (in) "Address inputs", 31 A6 (in) "Address inputs", 32 A7 (in) "Address inputs", 33 A8 (in) "Address inputs", 34 A9 (in) "Address inputs", 35 A11 (in) "Address inputs", 36 NC hidden, 37 CKE (in) "Clock enable:", 38 CLK (in) "Clock", 39 DQMH (in) "Input/output mask", 40 NC hidden, 41 Vss (power) "Ground", 42 DQ8 (io) "Data input/output", 43 Vddq (power) "DQ power: Isolated DQ power to the die for improved noise immunity.", 44 DQ9 (io) "Data input/output", 45 DQ10 (io) "Data input/output", 46 Vssq (power) "DQ ground: Isolated DQ ground to the die for improved noise immunity.", 47 DQ11 (io) "Data input/output", 48 DQ12 (io) "Data input/output", 49 Vddq (power) "DQ power: Isolated DQ power to the die for improved noise immunity.", 50 DQ13 (io) "Data input/output", 51 DQ14 (io) "Data input/output", 52 Vssq (power) "DQ ground: Isolated DQ ground to the die for improved noise immunity.", 53 DQ15 (io) "Data input/output", 54 Vss (power) "Ground"
text: MEM

## MX25L3205D
designator DD?, comment ?
CMOS SERIAL FLASH; Type: ?; Value: ?
pins: 1 CS#, 2 SO/SIO1, 3 WP#/ACC, 4 GND, 5 SI/SIO0, 6 SCLK, 7 HOLD#, 8 VCC
text: MEM

## MX536
designator DA?, comment ?
Type: ?; value: ?
pins: 1 VIN, 3 VSS, 4 CAV, 5 DB, 6 BUFOUT, 7 BUFIN, 8 IOUT, 9 RL, 10 COM, 14 VCC
text: DA

## NCP1400ASN33T1G
designator DD?, comment NCP1450ASN50T1G  (value not drawn)
Step Up PWM; value: *
footprint SOT-23-5
pins: 1 CE, 2 OUT, 3 NC, 4 GND, 5 LX

## NCP1450ASN50T1G
designator DD?  (value not drawn)
Step Up PWM; value: *
footprint SOT-23-5
pins: 1 CE, 2 OUT, 3 NC, 4 GND, 5 EXT

## OPA188
designator DA?, comment ?
Type: ?; Value: ?
pins: 2 IN-, 3 IN+, 4 U-, 6 OUT, 7 U+

## OPA4376-QUAD
designator DA?  (value not drawn)
PCB: TSOP-14
pins: 1 OUT A, 2 -IN A, 3 +IN A, 4 V+, 5 +IN B, 6 -IN B, 7 OUT B, 8 OUT C, 9 -IN C, 10 +IN C, 11 V-, 12 +IN D, 13 -IN D, 14 OUT D

## P6AU-0505ELF
designator DA?, comment ?
1 W single output DC/DC converters 5V-5V; Type: ?; Value: ?
pins: 1 IN- (power), 2 IN+ (power), 3 OUT- (power), 4 OUT+ (power)
text: ST

## P6CU-0515
designator DA?, comment ?
ISOLATED 1W UNREGULATED DUAL OUTPUT DC DC; Type: ?; Value: ?
pins: 1 IN+, 2 IN-, 4 OUT-, 5 COM, 6 OUT+
text: ST

## PCA9655E
designator DD?, comment ?
Remote 16-bit I/O Expander  for I2C Bus with Interrupt; Type: ?; Value: ?
part A pins: 4 IO0/0 (io), 5 IO0/1 (io), 6 IO0/2 (io), 7 IO0/3 (io), 8 IO0/4 (io), 9 IO0/5 (io), 10 IO0/6 (io), 11 IO0/7 (io), 13 IO1/0 (io), 14 IO1/1 (io), 15 IO1/2 (io), 16 IO1/3 (io), 17 IO1/4 (io), 18 IO1/5 (io), 19 IO1/6 (io), 20 IO1/7 (io)
part B pins: 1 INT# (out), 2 AD1 (in), 3 AD2 (in), 12 GND (io), 21 AD0 (in), 22 SCL (io), 23 SDA (io), 24 VDD (io)

## REF191
designator DA?, comment ?
Precision Micropower,  Low Dropout Voltage References; Type: ?; Value: ?
pins: 1 TP, 2 VCC, 3 SL, 4 GND, 6 OUT
text: G

## REF3333-QUAD
designator DA?  (value not drawn)
PCB: SOT-23
pins: 1 IN, 2 OUT, 3 GND

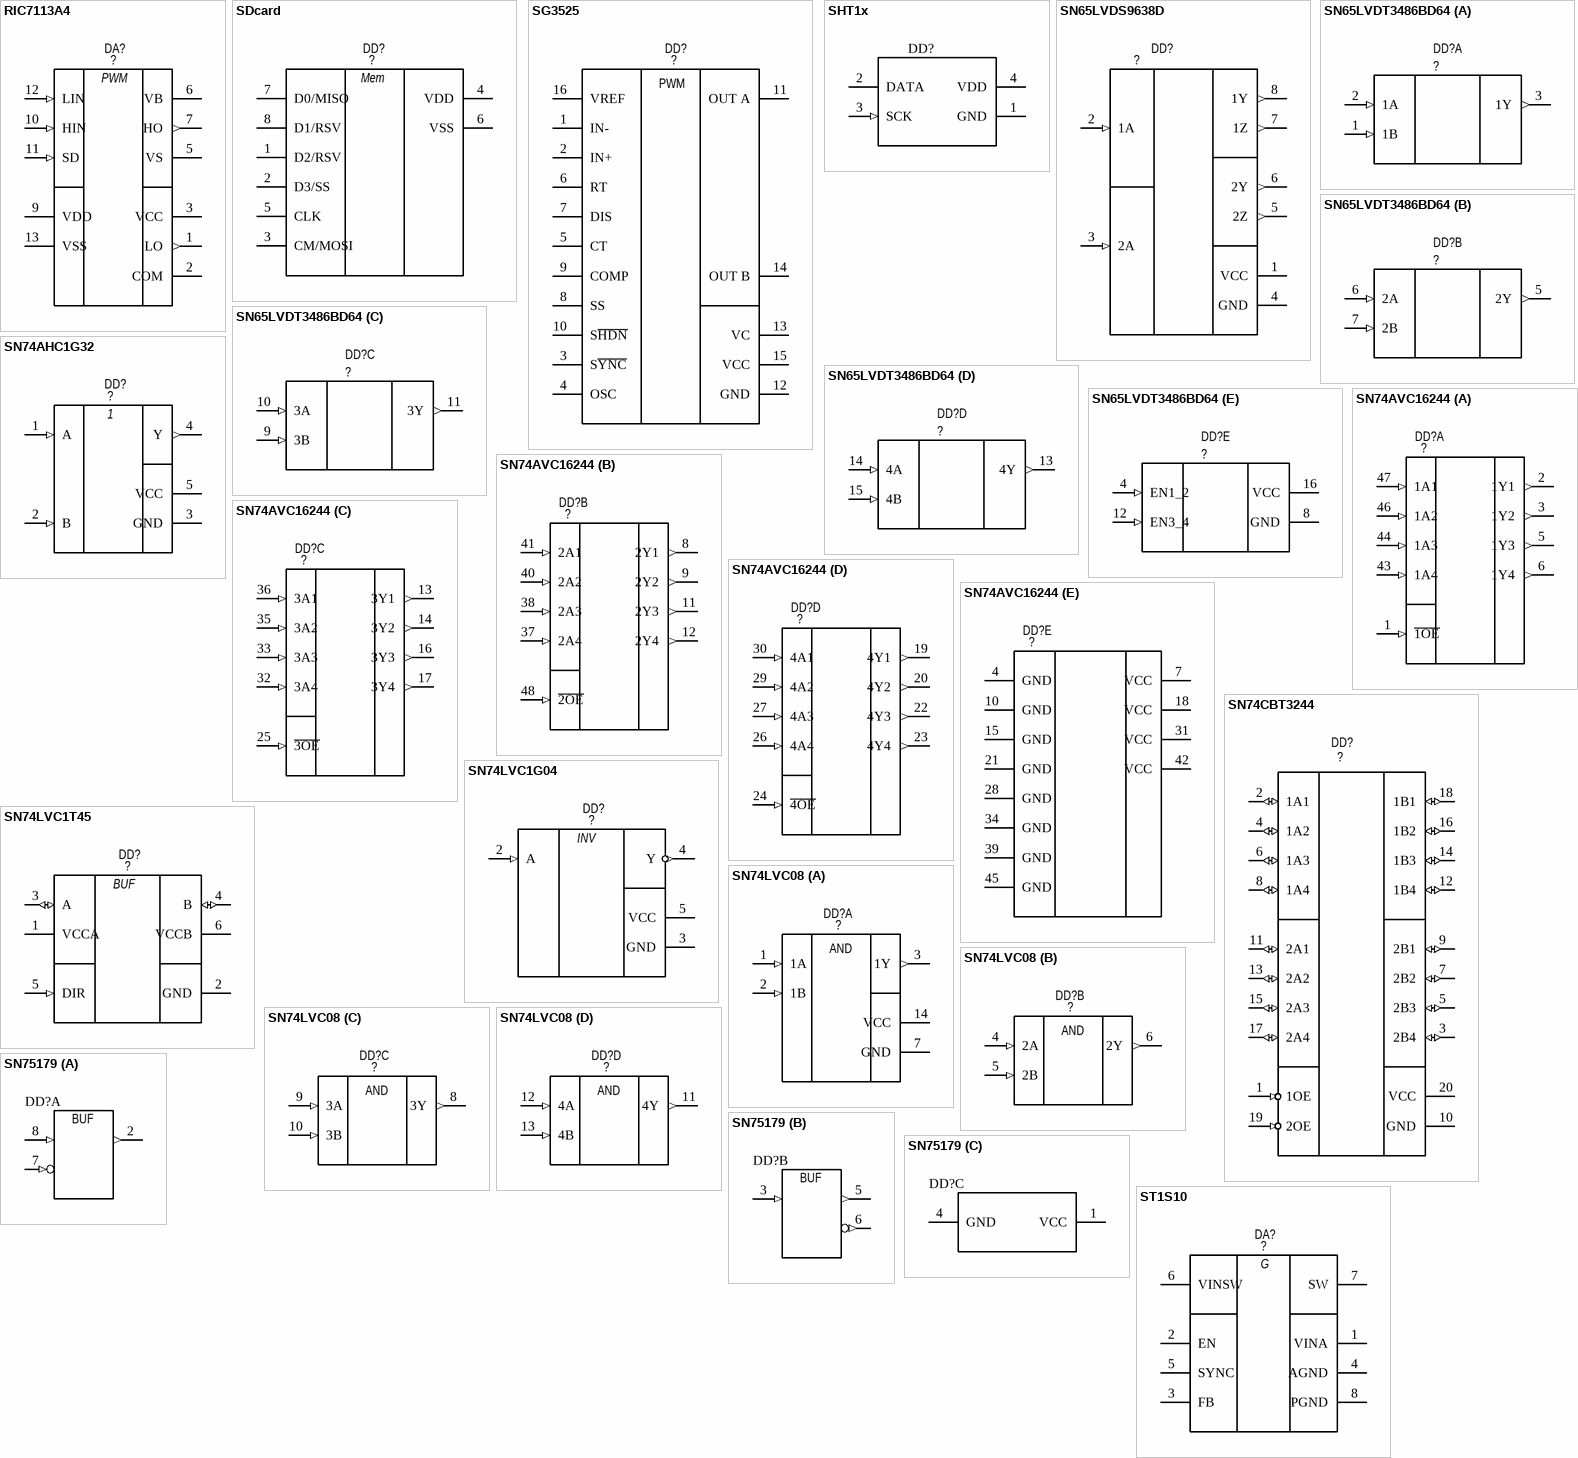
[diagram p12: symbols RIC7113A4 to ST1S10]

## RIC7113A4
designator DA?, comment ?
RADIATION HARDENED HIGH AND LOW SIDE GATE DRIVER; Type: ?; Value: ?
pins: 1 LO (out), 2 COM (power), 3 VCC (power), 5 VS (power), 6 VB (power), 7 HO (out), 9 VDD (power), 10 HIN (in), 11 SD (in), 12 LIN (in), 13 VSS (power)
text: PWM

## SDcard
designator DD?, comment ?
SD Memory Card; type: ?; value: ?
pins: 1 D2/RSV, 2 D3/SS, 3 CM/MOSI, 4 VDD, 5 CLK, 6 VSS, 7 D0/MISO, 8 D1/RSV
text: Mem

## SG3525
designator DD?, comment ?
Pulse Width Modulator  Control Circuit; type: ?; value: ?
pins: 1 IN-, 2 IN+, 3 S~{YNC}, 4 OSC, 5 CT, 6 RT, 7 DIS, 8 SS, 9 COMP, 10 S~{HDN}, 11 OUT A, 12 GND, 13 VC, 14 OUT B, 15 VCC, 16 VREF
text: PWM

## SHT1x
designator DD?  (value not drawn)
footprint SHT1x
pins: 1 GND, 2 DATA, 3 SCK (in), 4 VDD

## SN65LVDS9638D
designator DD?, comment ?
HIGH-SPEED DIFFERENTIAL LINE DRIVERS; Type: ?; Value: ?
pins: 1 VCC (power), 2 1A (in), 3 2A (in), 4 GND (power), 5 2Z (out), 6 2Y (out), 7 1Z (out), 8 1Y (out)

## SN65LVDT3486BD64
designator DD?, comment ?
HIGH-SPEED DIFFERENTIAL RECEIVERS; Type: ?; value: ?
part A pins: 1 1B (in), 2 1A (in), 3 1Y (out)
part B pins: 5 2Y (out), 6 2A (in), 7 2B (in)
part C pins: 9 3B (in), 10 3A (in), 11 3Y (out)
part D pins: 13 4Y (out), 14 4A (in), 15 4B (in)
part E pins: 4 EN1_2 (in), 8 GND (power), 12 EN3_4 (in), 16 VCC (power)

## SN74AHC1G32
designator DD?, comment ?
2-input OR gate; Type: ?; Value: ?
pins: 1 A (in), 2 B (in), 3 GND (power), 4 Y (out), 5 VCC (power)

## SN74AVC16244
designator DD?, comment ?
16-BIT BUFFER/DRIVER  WITH 3-STATE OUTPUTS; Type: ?; Value: ?
part A pins: 1 ~{1OE} (in), 2 1Y1 (out), 3 1Y2 (out), 5 1Y3 (out), 6 1Y4 (out), 43 1A4 (in), 44 1A3 (in), 46 1A2 (in), 47 1A1 (in)
part B pins: 8 2Y1 (out), 9 2Y2 (out), 11 2Y3 (out), 12 2Y4 (out), 37 2A4 (in), 38 2A3 (in), 40 2A2 (in), 41 2A1 (in), 48 ~{2OE} (in)
part C pins: 13 3Y1 (out), 14 3Y2 (out), 16 3Y3 (out), 17 3Y4 (out), 25 ~{3OE} (in), 32 3A4 (in), 33 3A3 (in), 35 3A2 (in), 36 3A1 (in)
part D pins: 19 4Y1 (out), 20 4Y2 (out), 22 4Y3 (out), 23 4Y4 (out), 24 ~{4OE} (in), 26 4A4 (in), 27 4A3 (in), 29 4A2 (in), 30 4A1 (in)
part E pins: 4 GND (power), 7 VCC (power), 10 GND (power), 15 GND (power), 18 VCC (power), 21 GND (power), 28 GND (power), 31 VCC (power), 34 GND (power), 39 GND (power), 42 VCC (power), 45 GND (power)

## SN74CBT3244
designator DD?, comment ?
Monolithic synchronous  step-down regulator; Type: ?; value: ?
pins: 1 1OE (in), 2 1A1 (io), 3 2B4 (io), 4 1A2 (io), 5 2B3 (io), 6 1A3 (io), 7 2B2 (io), 8 1A4 (io), 9 2B1 (io), 10 GND (power), 11 2A1 (io), 12 1B4 (io), 13 2A2 (io), 14 1B3 (io), 15 2A3 (io), 16 1B2 (io), 17 2A4 (io), 18 1B1 (io), 19 2OE (in), 20 VCC (power)

## SN74LVC1G04
designator DD?, comment ?
Single Inverter Gate; Type: ?; Value: ?
pins: 1 NC (power) hidden, 2 A (in), 3 GND (power), 4 Y (out), 5 VCC (power)
text: INV

## SN74LVC1T45
designator DD?, comment ?
Single-bit Dual-Supply Bus Transceiver With Configurable Voltage Translation and 3-State Outputs; Type: ?; Value: ?
pins: 1 VCCA (power), 2 GND (power), 3 A (io), 4 B (io), 5 DIR (in), 6 VCCB (power)
text: BUF

## SN74LVC08
designator DD?, comment ?
Quadruple 2-Input Positive-AND Gates; Type: ?; Value: ?
part A pins: 1 1A (in), 2 1B (in), 3 1Y (out), 7 GND (power), 14 VCC (power)
part B pins: 4 2A (in), 5 2B (in), 6 2Y (out)
part C pins: 8 3Y (out), 9 3A (in), 10 3B (in)
part D pins: 11 4Y (out), 12 4A (in), 13 4B (in)
part A text: AND
part B text: AND
part C text: AND
part D text: AND

## SN75179
designator DD?  (value not drawn)
value: *; Type: *
part A pins: 2 R (out), 7 B (in), 8 A (in)
part B pins: 3 D (in), 5 Y (out), 6 Z (out)
part C pins: 1 VCC, 4 GND
part A text: BUF
part B text: BUF

## ST1S10
designator DA?, comment ?
Monolithic synchronous  step-down regulator; Type: ?; Value: ?
pins: 1 VINA, 2 EN, 3 FB, 4 AGND, 5 SYNC, 6 VINSW, 7 SW, 8 PGND
text: G

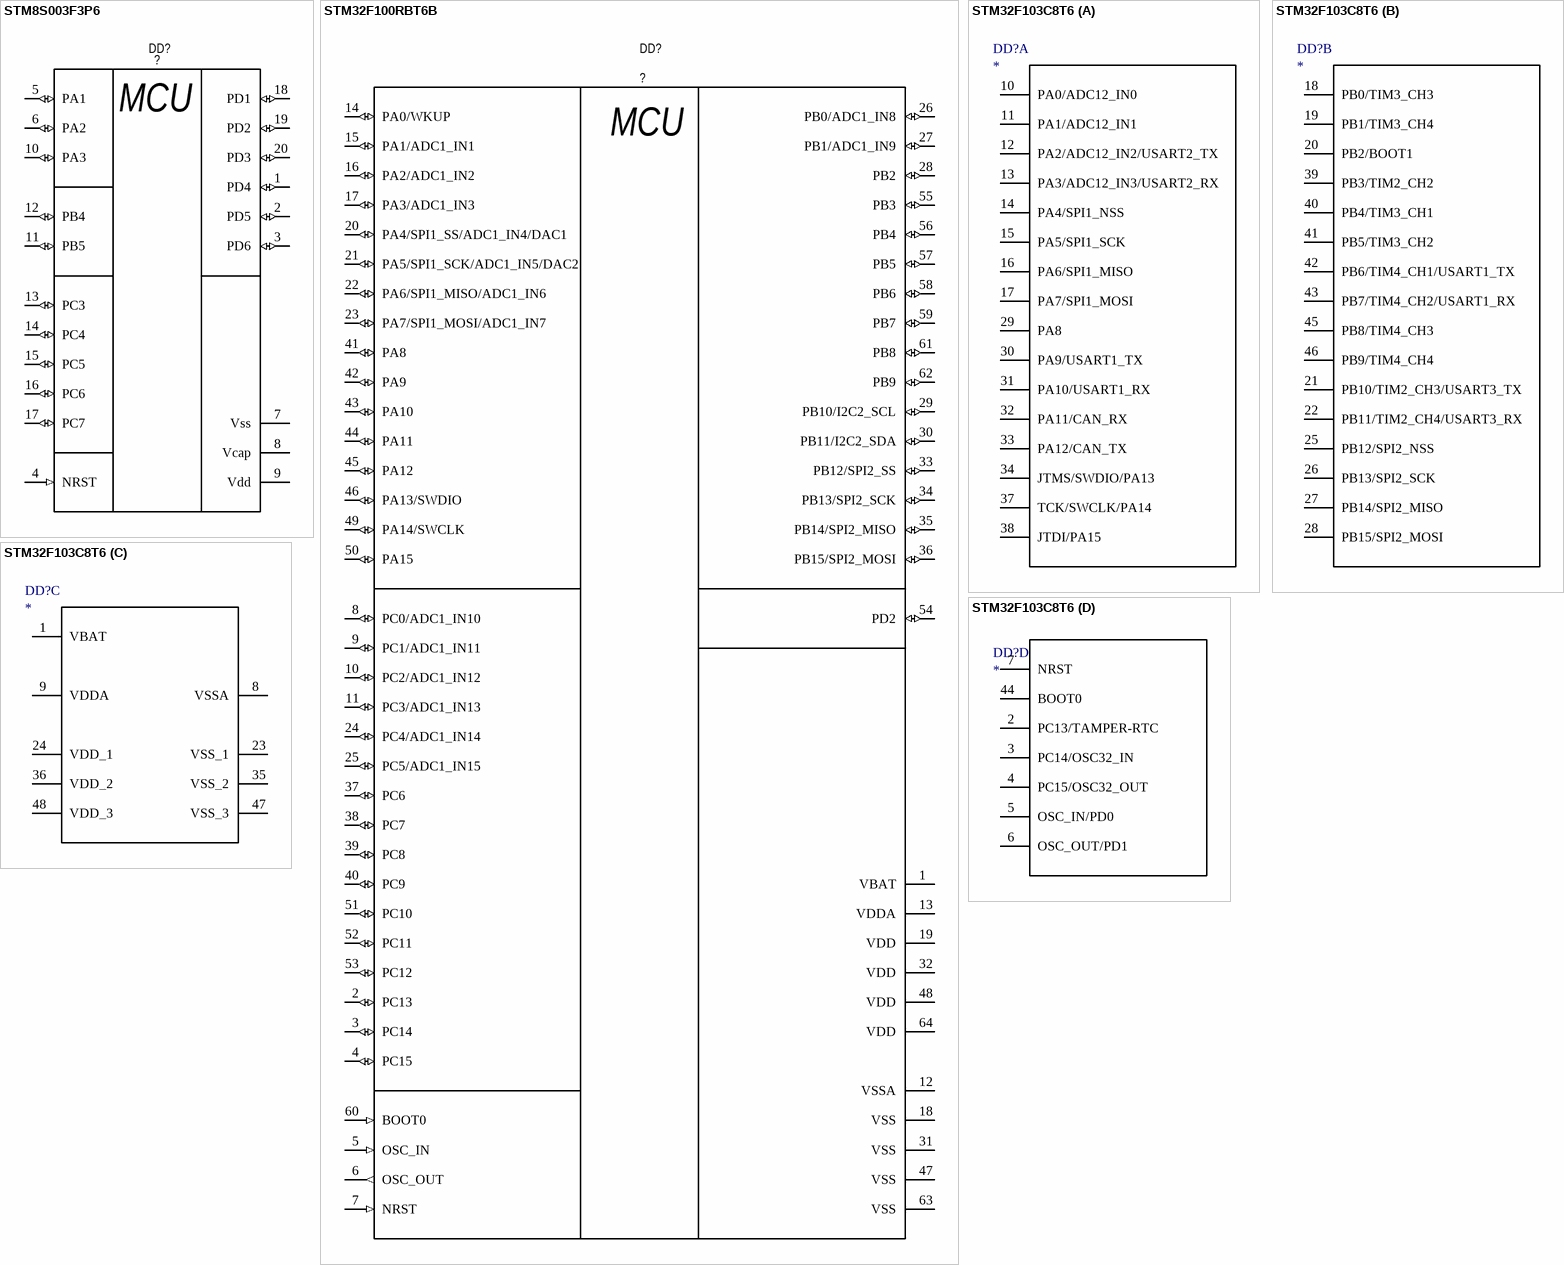
[diagram p13: symbols STM8S003F3P6 to STM32F103C8T6]

## STM8S003F3P6
designator DD?, comment ?
uC with 16 MHz STM8S 8-bit MCU, 8 Kbytes Flash, 128 bytes  data EEPROM, 10-bit ADC, 3 timers, UART, SPI, I2C; type: ?; value: ?
pins: 1 PD4 (io) "UART1_CK/TIM2_CH1/BEEP/(HS)PD4", 2 PD5 (io) "UART1_TX/AIN5/(HS) PD5", 3 PD6 (io) "UART1_RX/AIN6/(HS) PD6", 4 NRST (in), 5 PA1 (io) "OSCIN/PA1", 6 PA2 (io) "OSCOUT/PA2", 7 Vss (power), 8 Vcap (power), 9 Vdd (power), 10 PA3 (io) "[SPI_NSS] TIM2_CH3/(HS) PA3", 11 PB5 (io), 12 PB4 (io), 13 PC3 (io), 14 PC4 (io), 15 PC5 (io), 16 PC6 (io), 17 PC7 (io), 18 PD1 (io), 19 PD2 (io), 20 PD3 (io)
text: MCU

## STM32F100RBT6B
designator DD?, comment ?
uC with 16 MHz STM8S 8-bit MCU, 8 Kbytes Flash, 128 bytes  data EEPROM, 10-bit ADC, 3 timers, UART, SPI, I2C; type: ?; value: ?
pins: 1 VBAT (power), 2 PC13 (io), 3 PC14 (io), 4 PC15 (io), 5 OSC_IN (in), 6 OSC_OUT (out), 7 NRST (in), 8 PC0/ADC1_IN10 (io), 9 PC1/ADC1_IN11 (io), 10 PC2/ADC1_IN12 (io), 11 PC3/ADC1_IN13 (io), 12 VSSA (power), 13 VDDA (power), 14 PA0/WKUP (io), 15 PA1/ADC1_IN1 (io), 16 PA2/ADC1_IN2 (io), 17 PA3/ADC1_IN3 (io), 18 VSS (power), 19 VDD (power), 20 PA4/SPI1_SS/ADC1_IN4/DAC1 (io), 21 PA5/SPI1_SCK/ADC1_IN5/DAC2 (io), 22 PA6/SPI1_MISO/ADC1_IN6 (io), 23 PA7/SPI1_MOSI/ADC1_IN7 (io), 24 PC4/ADC1_IN14 (io), 25 PC5/ADC1_IN15 (io), 26 PB0/ADC1_IN8 (io), 27 PB1/ADC1_IN9 (io), 28 PB2 (io), 29 PB10/I2C2_SCL (io), 30 PB11/I2C2_SDA (io), 31 VSS (power), 32 VDD (power), 33 PB12/SPI2_SS (io), 34 PB13/SPI2_SCK (io), 35 PB14/SPI2_MISO (io), 36 PB15/SPI2_MOSI (io), 37 PC6 (io), 38 PC7 (io), 39 PC8 (io), 40 PC9 (io), 41 PA8 (io), 42 PA9 (io), 43 PA10 (io), 44 PA11 (io), 45 PA12 (io), 46 PA13/SWDIO (io), 47 VSS (power), 48 VDD (power), 49 PA14/SWCLK (io), 50 PA15 (io), 51 PC10 (io), 52 PC11 (io), 53 PC12 (io), 54 PD2 (io), 55 PB3 (io), 56 PB4 (io), 57 PB5 (io), 58 PB6 (io), 59 PB7 (io), 60 BOOT0 (in), 61 PB8 (io), 62 PB9 (io), 63 VSS (power), 64 VDD (power)
text: MCU

## STM32F103C8T6
designator DD?
part A pins: 10 PA0/ADC12_IN0, 11 PA1/ADC12_IN1, 12 PA2/ADC12_IN2/USART2_TX, 13 PA3/ADC12_IN3/USART2_RX, 14 PA4/SPI1_NSS, 15 PA5/SPI1_SCK, 16 PA6/SPI1_MISO, 17 PA7/SPI1_MOSI, 29 PA8, 30 PA9/USART1_TX, 31 PA10/USART1_RX, 32 PA11/CAN_RX, 33 PA12/CAN_TX, 34 JTMS/SWDIO/PA13, 37 TCK/SWCLK/PA14, 38 JTDI/PA15
part B pins: 18 PB0/TIM3_CH3, 19 PB1/TIM3_CH4, 20 PB2/BOOT1, 21 PB10/TIM2_CH3/USART3_TX, 22 PB11/TIM2_CH4/USART3_RX, 25 PB12/SPI2_NSS, 26 PB13/SPI2_SCK, 27 PB14/SPI2_MISO, 28 PB15/SPI2_MOSI, 39 PB3/TIM2_CH2, 40 PB4/TIM3_CH1, 41 PB5/TIM3_CH2, 42 PB6/TIM4_CH1/USART1_TX, 43 PB7/TIM4_CH2/USART1_RX, 45 PB8/TIM4_CH3, 46 PB9/TIM4_CH4
part C pins: 1 VBAT, 8 VSSA, 9 VDDA, 23 VSS_1, 24 VDD_1, 35 VSS_2, 36 VDD_2, 47 VSS_3, 48 VDD_3
part D pins: 2 PC13/TAMPER-RTC, 3 PC14/OSC32_IN, 4 PC15/OSC32_OUT, 5 OSC_IN/PD0, 6 OSC_OUT/PD1, 7 NRST, 44 BOOT0

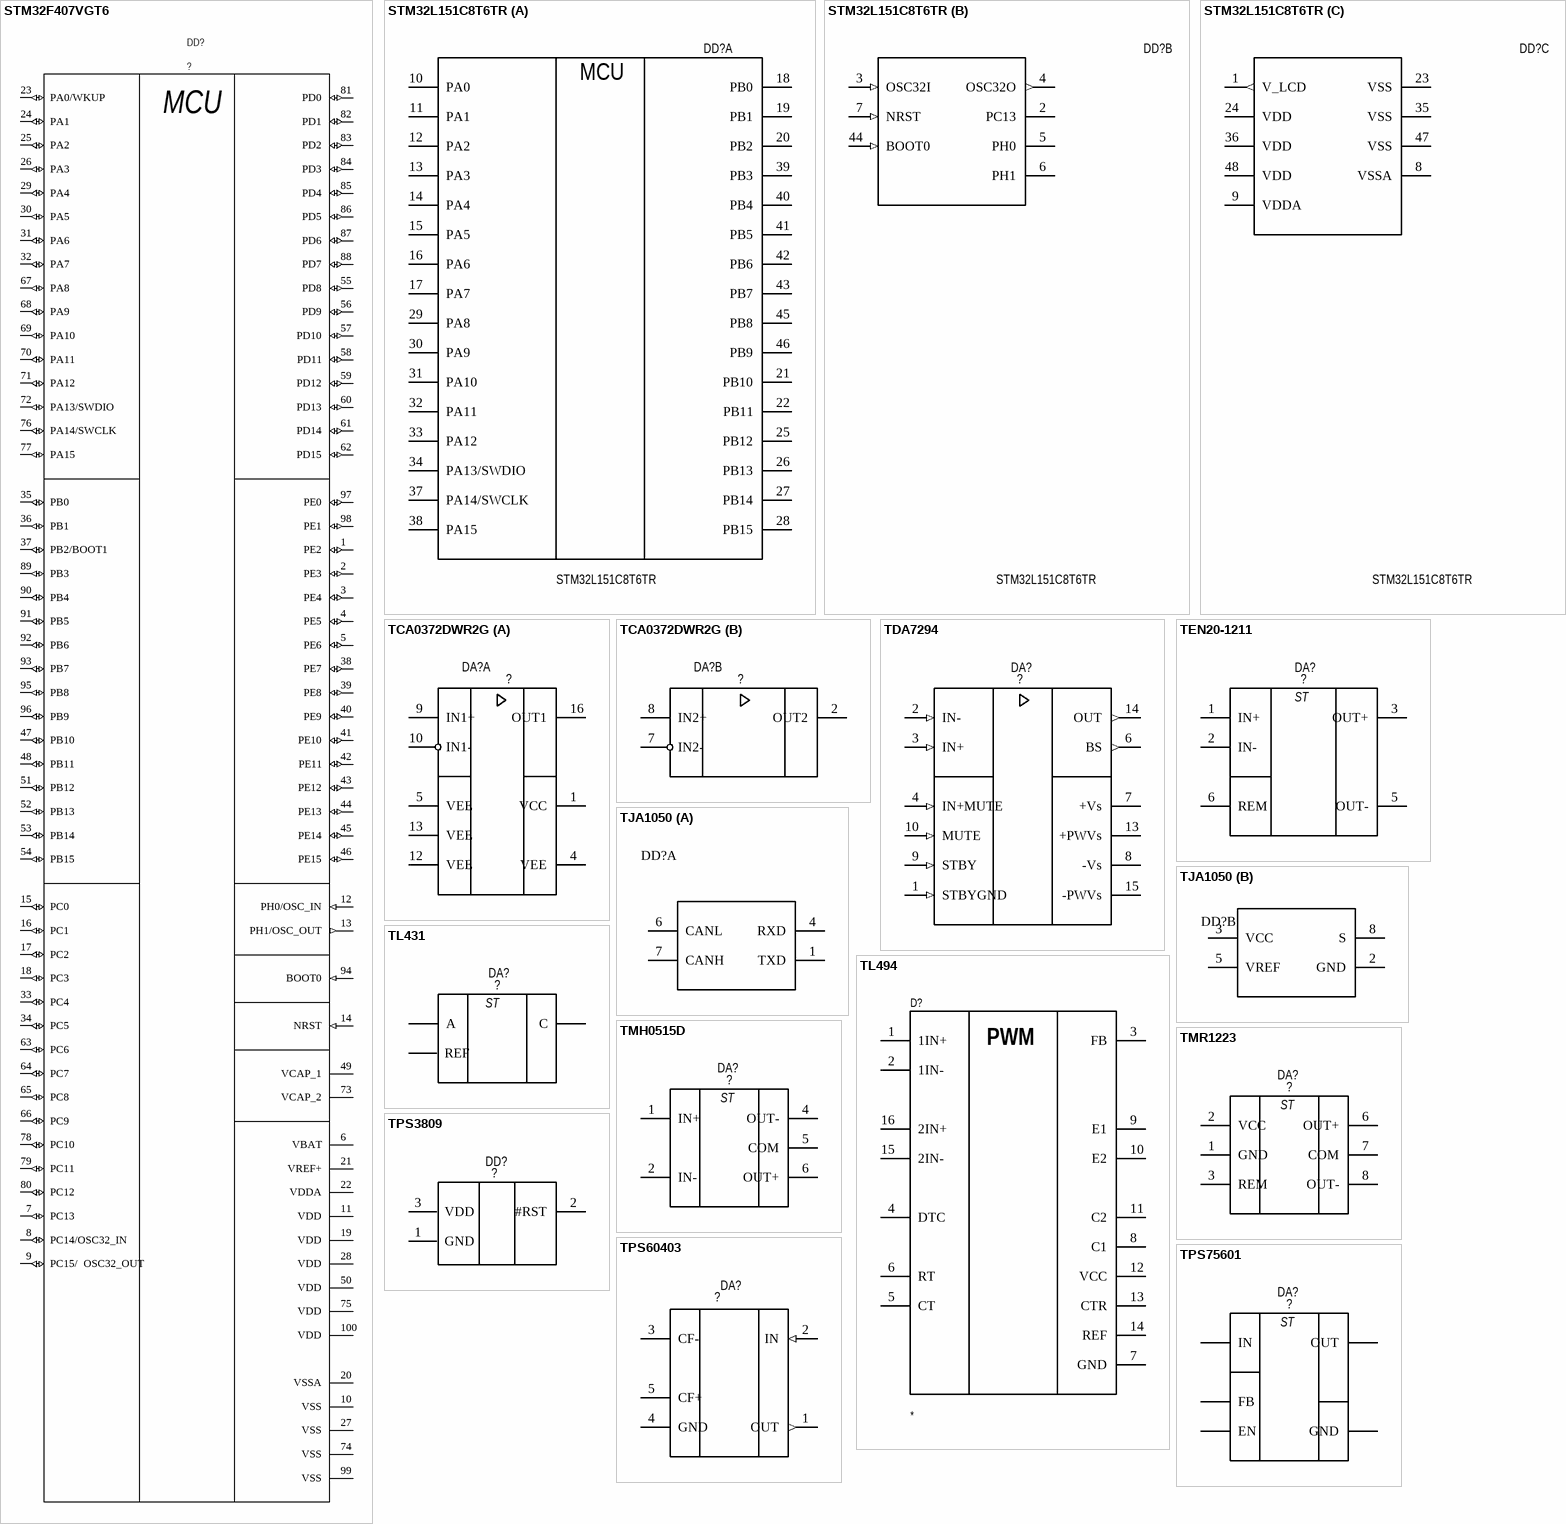
[diagram p14: symbols STM32F407VGT6 to TPS75601]